# Altium schematic symbol library dungvh03-CERN_AnalogInterface.SchLib: 1053 symbols (part 5 of 12)
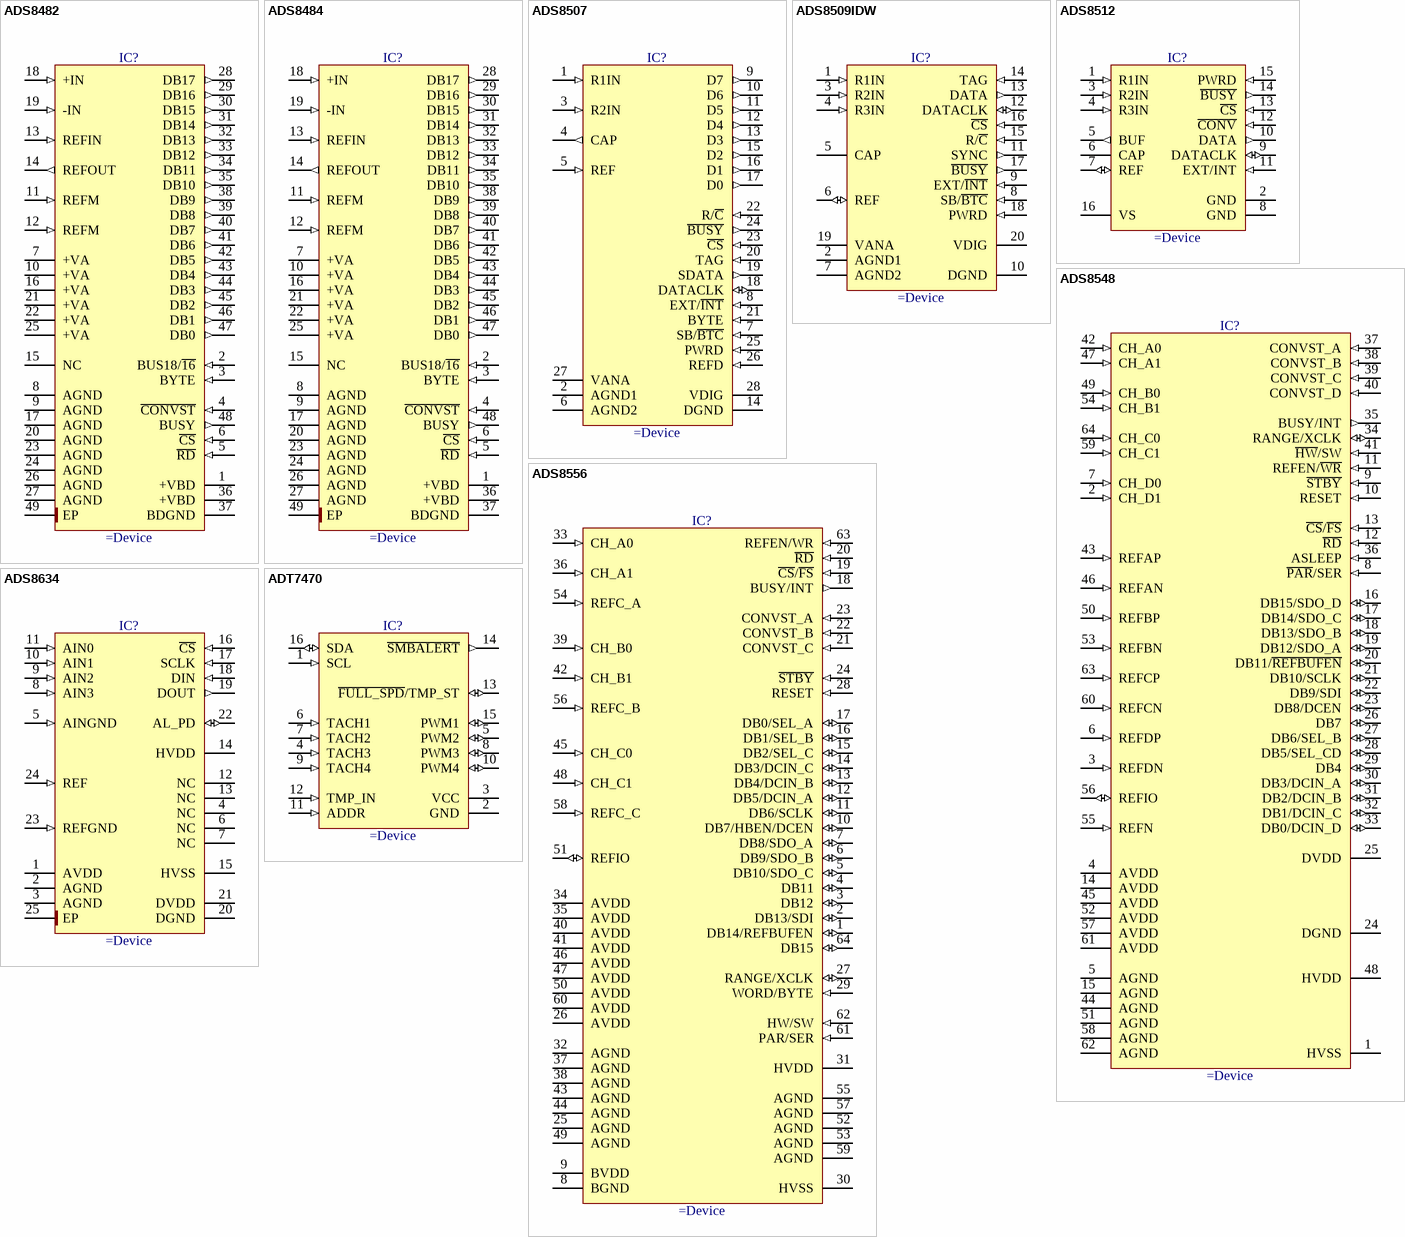
[diagram p71: symbols ADS8482 to ADT7470]

## ADS8512
designator IC?
12-Bit, 40-kSPS, Low Power Sampling ADC with Internal Reference and Serial Interface
pins: 1 R1IN (in), 2 GND (power), 3 R2IN (in), 4 R3IN (in), 5 BUF (out), 6 CAP, 7 REF (io), 8 GND (power), 9 DATACLK (io), 10 DATA (out), 11 EXT/INT (in), 12 ~{CONV} (in), 13 ~{CS} (in), 14 ~{BUSY} (out), 15 PWRD (in), 16 VS (power)

## ADS8548
designator IC?
14-Bit, 600kSPS (PAR) or 450kSPS (SER), Eight-Channel, Simultaneous Sampling ADC
pins: 1 HVSS (power), 2 CH_D1 (in), 3 REFDN (in), 4 AVDD (power), 5 AGND (power), 6 REFDP (in), 7 CH_D0 (in), 8 ~{PAR}/SER (in), 9 ~{STBY} (in), 10 RESET (in), 11 REFEN/~{WR} (in), 12 ~{RD} (in), 13 ~{CS}/~{FS} (in), 14 AVDD (power), 15 AGND (power), 16 DB15/SDO_D (io), 17 DB14/SDO_C (io), 18 DB13/SDO_B (io), 19 DB12/SDO_A (io), 20 DB11/~{REFBUFEN} (io), 21 DB10/SCLK (io), 22 DB9/SDI (io), 23 DB8/DCEN (io), 24 DGND (power), 25 DVDD (power), 26 DB7 (io), 27 DB6/SEL_B (io), 28 DB5/SEL_CD (io), 29 DB4 (io), 30 DB3/DCIN_A (io), 31 DB2/DCIN_B (io), 32 DB1/DCIN_C (io), 33 DB0/DCIN_D (io), 34 RANGE/XCLK (io), 35 BUSY/INT (out), 36 ASLEEP (in), 37 CONVST_A (in), 38 CONVST_B (in), 39 CONVST_C (in), 40 CONVST_D (in), 41 ~{HW}/SW (in), 42 CH_A0 (in), 43 REFAP (in), 44 AGND (power), 45 AVDD (power), 46 REFAN (in), 47 CH_A1 (in), 48 HVDD (power), 49 CH_B0 (in), 50 REFBP (in), 51 AGND (power), 52 AVDD (power), 53 REFBN (in), 54 CH_B1 (in), 55 REFN (in), 56 REFIO (io), 57 AVDD (power), 58 AGND (power), 59 CH_C1 (in), 60 REFCN (in), 61 AVDD (power), 62 AGND (power), 63 REFCP (in), 64 CH_C0 (in)

## ADS8556
designator IC?
16-Bit, 630kSPS (PAR) or 450kSPS (SER), Six-Channel, Simultaneous Sampling ADC
pins: 1 DB14/REFBUFEN (io), 2 DB13/SDI (io), 3 DB12 (io), 4 DB11 (io), 5 DB10/SDO_C (io), 6 DB9/SDO_B (io), 7 DB8/SDO_A (io), 8 BGND (power), 9 BVDD (power), 10 DB7/HBEN/DCEN (io), 11 DB6/SCLK (io), 12 DB5/DCIN_A (io), 13 DB4/DCIN_B (io), 14 DB3/DCIN_C (io), 15 DB2/SEL_C (io), 16 DB1/SEL_B (io), 17 DB0/SEL_A (io), 18 BUSY/INT (out), 19 ~{CS}/~{FS} (in), 20 ~{RD} (in), 21 CONVST_C (in), 22 CONVST_B (in), 23 CONVST_A (in), 24 ~{STBY} (in), 25 AGND (power), 26 AVDD (power), 27 RANGE/XCLK (io), 28 RESET (in), 29 WORD/BYTE (in), 30 HVSS (power), 31 HVDD (power), 32 AGND (power), 33 CH_A0 (in), 34 AVDD (power), 35 AVDD (power), 36 CH_A1 (in), 37 AGND (power), 38 AGND (power), 39 CH_B0 (in), 40 AVDD (power), 41 AVDD (power), 42 CH_B1 (in), 43 AGND (power), 44 AGND (power), 45 CH_C0 (in), 46 AVDD (power), 47 AVDD (power), 48 CH_C1 (in), 49 AGND (power), 50 AVDD (power), 51 REFIO (io), 52 AGND (power), 53 AGND (power), 54 REFC_A (in), 55 AGND (power), 56 REFC_B (in), 57 AGND (power), 58 REFC_C (in), 59 AGND (power), 60 AVDD (power), 61 PAR/SER (in), 62 HW/SW (in), 63 REFEN/WR (in), 64 DB15 (io)

## ADS8634
designator IC?
12-Bit, 1MSPS, 4-Channel, Bipolar-Input, SAR Analog-to-Digital Converter with Software-Selectable Ranges
pins: 1 AVDD (power), 2 AGND (power), 3 AGND (power), 4 NC, 5 AINGND (in), 6 NC, 7 NC, 8 AIN3 (in), 9 AIN2 (in), 10 AIN1 (in), 11 AIN0 (in), 12 NC, 13 NC, 14 HVDD (power), 15 HVSS (power), 16 ~{CS} (in), 17 SCLK (in), 18 DIN (in), 19 DOUT (out), 20 DGND (power), 21 DVDD (power), 22 AL_PD (io), 23 REFGND (in), 24 REF (in), 25 EP (power)

## ADT7470
designator IC?
Temperature Sensor Hub and Fan Controller
pins: 1 SCL (in), 2 GND (power), 3 VCC (power), 4 TACH3 (in), 5 PWM2 (io), 6 TACH1 (in), 7 TACH2 (in), 8 PWM3 (io), 9 TACH4 (in), 10 PWM4 (io), 11 ADDR (in), 12 TMP_IN (in), 13 ~{FULL_SPD}/TMP_ST (io), 14 ~{SMBALERT} (out), 15 PWM1 (io), 16 SDA (io)

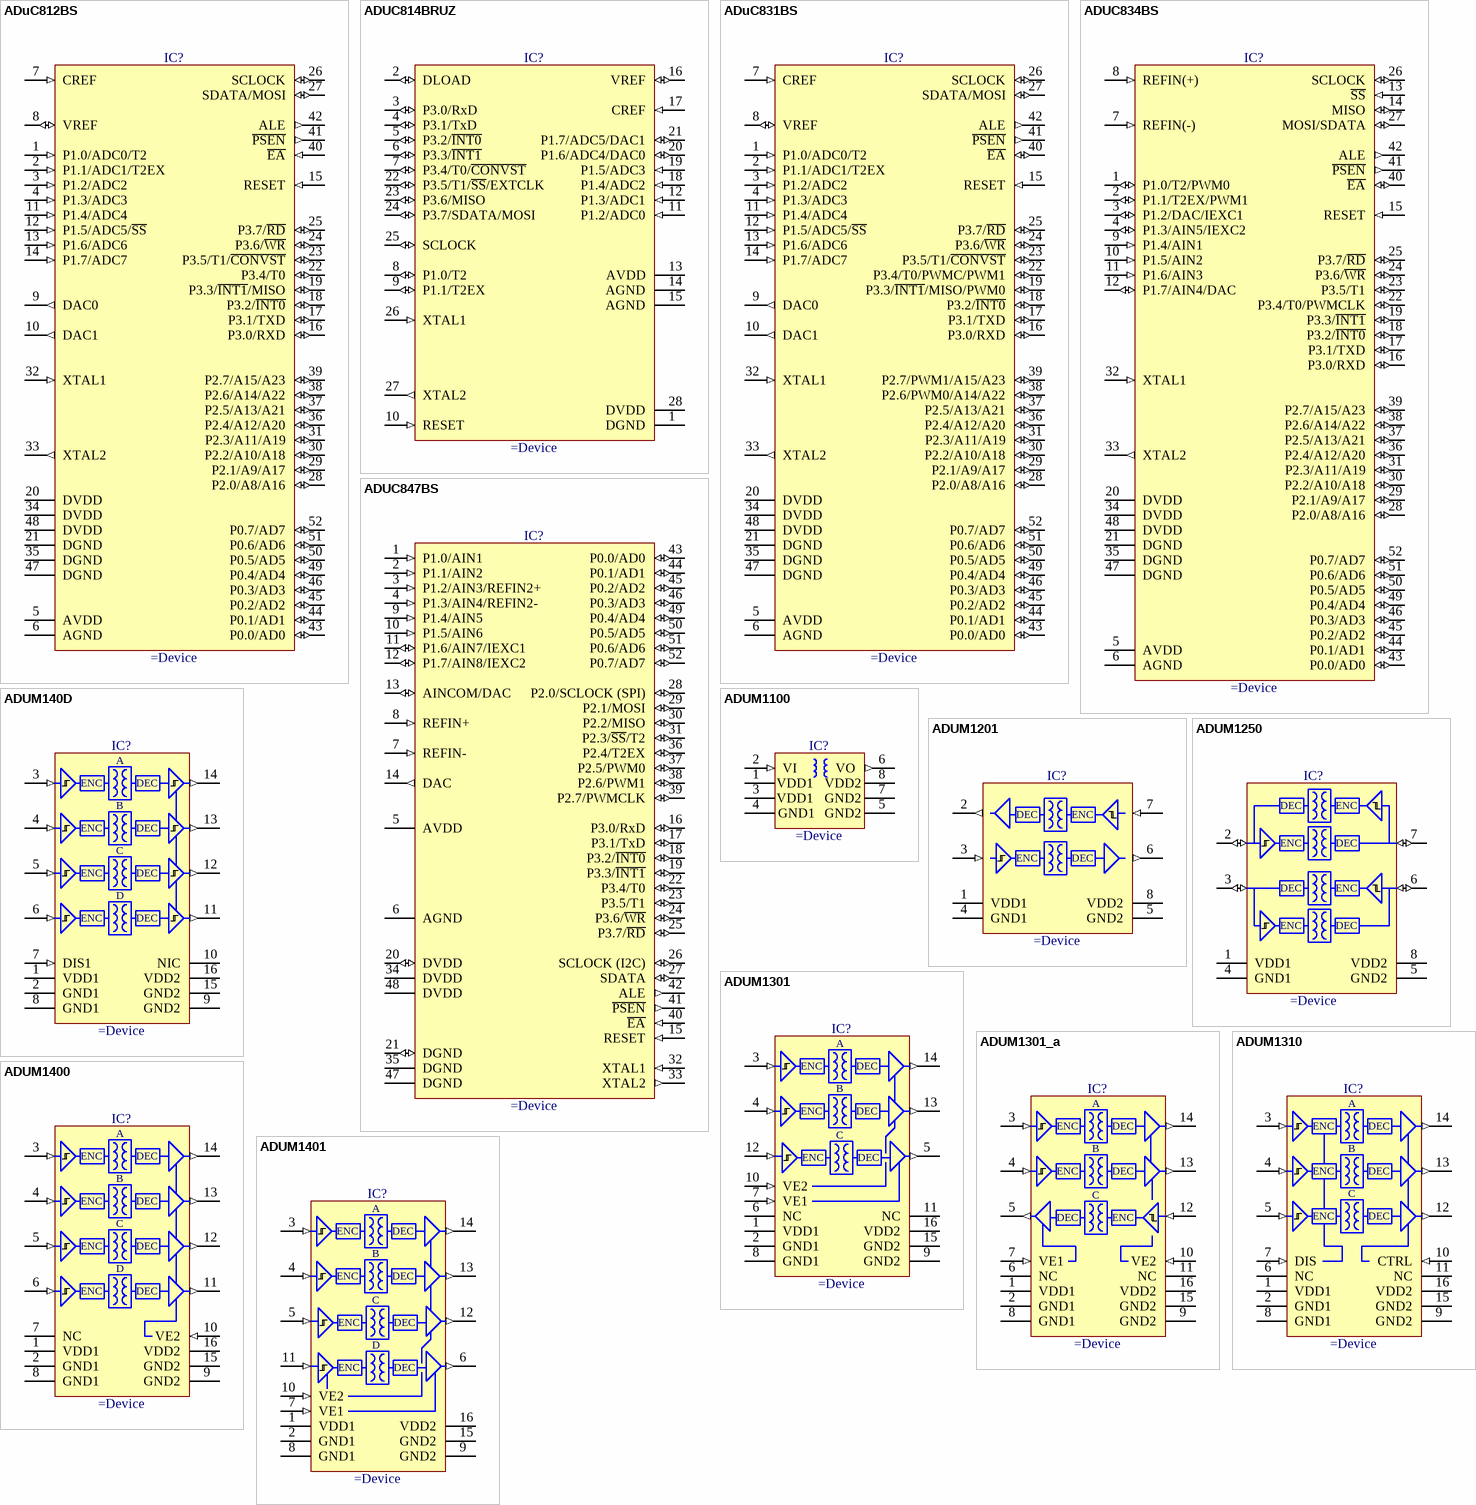
[diagram p22: symbols ADuC812BS to ADUM1401]

## ADuC812BS
designator IC?
MicroConverter®, Multichannel 12-Bit ADC With Embedded Flash MCU
pins: 1 P1.0/ADC0/T2 (in), 2 P1.1/ADC1/T2EX (in), 3 P1.2/ADC2 (in), 4 P1.3/ADC3 (in), 5 AVDD (power), 6 AGND (power), 7 CREF (in), 8 VREF (io), 9 DAC0 (out), 10 DAC1 (out), 11 P1.4/ADC4 (in), 12 P1.5/ADC5/~{SS} (in), 13 P1.6/ADC6 (in), 14 P1.7/ADC7 (in), 15 RESET (in), 16 P3.0/RXD (io), 17 P3.1/TXD (io), 18 P3.2/~{INT0} (io), 19 P3.3/~{INT1}/MISO (io), 20 DVDD (power), 21 DGND (power), 22 P3.4/T0 (io), 23 P3.5/T1/~{CONVST} (io), 24 P3.6/~{WR} (io), 25 P3.7/~{RD} (io), 26 SCLOCK (io), 27 SDATA/MOSI (io), 28 P2.0/A8/A16 (io), 29 P2.1/A9/A17 (io), 30 P2.2/A10/A18 (io), 31 P2.3/A11/A19 (io), 32 XTAL1 (in), 33 XTAL2 (out), 34 DVDD (power), 35 DGND (power), 36 P2.4/A12/A20 (io), 37 P2.5/A13/A21 (io), 38 P2.6/A14/A22 (io), 39 P2.7/A15/A23 (io), 40 ~{EA} (in), 41 ~{PSEN} (out), 42 ALE (out), 43 P0.0/AD0 (io), 44 P0.1/AD1 (io), 45 P0.2/AD2 (io), 46 P0.3/AD3 (io), 47 DGND (power), 48 DVDD (power), 49 P0.4/AD4 (io), 50 P0.5/AD5 (io), 51 P0.6/AD6 (io), 52 P0.7/AD7 (io)

## ADUC814BRUZ
designator IC?
MicroConverter®, Small Package 12-Bit ADC with Embedded Flash MCU
pins: 1 DGND (power), 2 DLOAD (io), 3 P3.0/RxD (io), 4 P3.1/TxD (io), 5 P3.2/~{INT0} (io), 6 P3.3/~{INT1} (io), 7 P3.4/T0/~{CONVST} (io), 8 P1.0/T2 (io), 9 P1.1/T2EX (io), 10 RESET (in), 11 P1.2/ADC0 (in), 12 P1.3/ADC1 (in), 13 AVDD (power), 14 AGND (power), 15 AGND (power), 16 VREF (io), 17 CREF (in), 18 P1.4/ADC2 (in), 19 P1.5/ADC3 (in), 20 P1.6/ADC4/DAC0 (io), 21 P1.7/ADC5/DAC1 (io), 22 P3.5/T1/~{SS}/EXTCLK (io), 23 P3.6/MISO (io), 24 P3.7/SDATA/MOSI (io), 25 SCLOCK (io), 26 XTAL1 (in), 27 XTAL2 (out), 28 DVDD (power)

## ADuC831BS
designator IC?
MicroConverter®, 12-Bit ADCs And DACs With Embedded 62 kBytes Flash MCU
pins: 1 P1.0/ADC0/T2 (in), 2 P1.1/ADC1/T2EX (in), 3 P1.2/ADC2 (in), 4 P1.3/ADC3 (in), 5 AVDD (power), 6 AGND (power), 7 CREF (in), 8 VREF (io), 9 DAC0 (out), 10 DAC1 (out), 11 P1.4/ADC4 (in), 12 P1.5/ADC5/~{SS} (in), 13 P1.6/ADC6 (in), 14 P1.7/ADC7 (in), 15 RESET (in), 16 P3.0/RXD (io), 17 P3.1/TXD (io), 18 P3.2/~{INT0} (io), 19 P3.3/~{INT1}/MISO/PWM0 (io), 20 DVDD (power), 21 DGND (power), 22 P3.4/T0/PWMC/PWM1 (io), 23 P3.5/T1/~{CONVST} (io), 24 P3.6/~{WR} (io), 25 P3.7/~{RD} (io), 26 SCLOCK (io), 27 SDATA/MOSI (io), 28 P2.0/A8/A16 (io), 29 P2.1/A9/A17 (io), 30 P2.2/A10/A18 (io), 31 P2.3/A11/A19 (io), 32 XTAL1 (in), 33 XTAL2 (out), 34 DVDD (power), 35 DGND (power), 36 P2.4/A12/A20 (io), 37 P2.5/A13/A21 (io), 38 P2.6/PWM0/A14/A22 (io), 39 P2.7/PWM1/A15/A23 (io), 40 ~{EA} (io), 41 ~{PSEN} (out), 42 ALE (out), 43 P0.0/AD0 (io), 44 P0.1/AD1 (io), 45 P0.2/AD2 (io), 46 P0.3/AD3 (io), 47 DGND (power), 48 DVDD (power), 49 P0.4/AD4 (io), 50 P0.5/AD5 (io), 51 P0.6/AD6 (io), 52 P0.7/AD7 (io)

## ADUC834BS
designator IC?
MicroConverter®, Dual 16-Bit/24-Bit Delta-Sigma ADC ADCs With Embedded 62 kB Flash MCU
pins: 1 P1.0/T2/PWM0 (io), 2 P1.1/T2EX/PWM1 (io), 3 P1.2/DAC/IEXC1 (io), 4 P1.3/AIN5/IEXC2 (io), 5 AVDD (power), 6 AGND (power), 7 REFIN(-) (in), 8 REFIN(+) (in), 9 P1.4/AIN1 (in), 10 P1.5/AIN2 (in), 11 P1.6/AIN3 (in), 12 P1.7/AIN4/DAC (io), 13 ~{SS} (in), 14 MISO (io), 15 RESET (in), 16 P3.0/RXD (io), 17 P3.1/TXD (io), 18 P3.2/~{INT0} (io), 19 P3.3/~{INT1} (io), 20 DVDD (power), 21 DGND (power), 22 P3.4/T0/PWMCLK (io), 23 P3.5/T1 (io), 24 P3.6/~{WR} (io), 25 P3.7/~{RD} (io), 26 SCLOCK (io), 27 MOSI/SDATA (io), 28 P2.0/A8/A16 (io), 29 P2.1/A9/A17 (io), 30 P2.2/A10/A18 (io), 31 P2.3/A11/A19 (io), 32 XTAL1 (in), 33 XTAL2 (out), 34 DVDD (power), 35 DGND (power), 36 P2.4/A12/A20 (io), 37 P2.5/A13/A21 (io), 38 P2.6/A14/A22 (io), 39 P2.7/A15/A23 (io), 40 ~{EA} (io), 41 ~{PSEN} (out), 42 ALE (out), 43 P0.0/AD0 (io), 44 P0.1/AD1 (io), 45 P0.2/AD2 (io), 46 P0.3/AD3 (io), 47 DGND (power), 48 DVDD (power), 49 P0.4/AD4 (io), 50 P0.5/AD5 (io), 51 P0.6/AD6 (io), 52 P0.7/AD7 (io)

## ADUC847BS
designator IC?
MicroConverter® Multichannel 24-Bit ADCs with Embedded 62 kB Flash and Single-Cycle MCU
pins: 1 P1.0/AIN1 (in), 2 P1.1/AIN2 (in), 3 P1.2/AIN3/REFIN2+ (in), 4 P1.3/AIN4/REFIN2- (in), 5 AVDD (power), 6 AGND (power), 7 REFIN- (in), 8 REFIN+ (in), 9 P1.4/AIN5 (in), 10 P1.5/AIN6 (in), 11 P1.6/AIN7/IEXC1 (io), 12 P1.7/AIN8/IEXC2 (io), 13 AINCOM/DAC (io), 14 DAC (out), 15 RESET (in), 16 P3.0/RxD (io), 17 P3.1/TxD (io), 18 P3.2/~{INT0} (io), 19 P3.3/~{INT1} (io), 20 DVDD (io), 21 DGND (io), 22 P3.4/T0 (io), 23 P3.5/T1 (io), 24 P3.6/~{WR} (io), 25 P3.7/~{RD} (io), 26 SCLOCK (I2C) (io), 27 SDATA (io), 28 P2.0/SCLOCK (SPI) (io), 29 P2.1/MOSI (io), 30 P2.2/MISO (io), 31 P2.3/~{SS}/T2 (io), 32 XTAL1 (in), 33 XTAL2 (out), 34 DVDD (power), 35 DGND (power), 36 P2.4/T2EX (io), 37 P2.5/PWM0 (io), 38 P2.6/PWM1 (io), 39 P2.7/PWMCLK (io), 40 ~{EA} (in), 41 ~{PSEN} (out), 42 ALE (out), 43 P0.0/AD0 (io), 44 P0.1/AD1 (io), 45 P0.2/AD2 (io), 46 P0.3/AD3 (io), 47 DGND (power), 48 DVDD (power), 49 P0.4/AD4 (io), 50 P0.5/AD5 (io), 51 P0.6/AD6 (io), 52 P0.7/AD7 (io)

## ADUM140D
designator IC?
3.0kV RMS/3.75kV RMS Quad Digital Isolator
pins: 1 VDD1 (power), 2 GND1 (power), 3 VIA (in), 4 VIB (in), 5 VIC (in), 6 VID (in), 7 DIS1 (in), 8 GND1 (power), 9 GND2 (power), 10 NIC, 11 VOD (out), 12 VOC (out), 13 VOB (out), 14 VOA (out), 15 GND2 (power), 16 VDD2 (power)
text: A; ENC; DEC; B; C; D

## ADUM1100
designator IC?
iCoupler® Digital Isolator
pins: 1 VDD1 (power), 2 VI (in), 3 VDD1 (power), 4 GND1 (power), 5 GND2 (power), 6 VO (out), 7 GND2 (power), 8 VDD2 (power)

## ADUM1201
designator IC?
Dual-Channel Digital Isolators
pins: 1 VDD1 (power), 2 VOA (out), 3 VIB (in), 4 GND1 (power), 5 GND2 (power), 6 VOB (out), 7 VIA (in), 8 VDD2 (power)
text: DEC; ENC

## ADUM1250
designator IC?
Hot Swappable, Dual I2C Isolator
pins: 1 VDD1 (power), 2 SDA1 (io), 3 SCL1 (io), 4 GND1 (power), 5 GND2 (power), 6 SCL2 (io), 7 SDA2 (io), 8 VDD2 (power)
text: DEC; ENC

## ADUM1301
designator IC?
Triple-Channel Digital Isolators
pins: 1 VDD1 (power), 2 GND1 (power), 3 VIA (in), 4 VIB (in), 5 VOC (out), 6 NC, 7 VE1 (in), 8 GND1 (power), 9 GND2 (power), 10 VE2 (in), 11 NC, 12 VIC (in), 13 VOB (out), 14 VOA (out), 15 GND2 (power), 16 VDD2 (power)
text: A; ENC; DEC; B; C

## ADUM1301_a
designator IC?
Triple-Channel Digital Isolators
pins: 1 VDD1 (power), 2 GND1 (power), 3 VIA (in), 4 VIB (in), 5 VOC (out), 6 NC, 7 VE1 (in), 8 GND1 (power), 9 GND2 (power), 10 VE2 (in), 11 NC, 12 VIC (in), 13 VOB (out), 14 VOA (out), 15 GND2 (power), 16 VDD2 (power)
text: A; ENC; DEC; B; C

## ADUM1310
designator IC?
Triple-Channel Digital Isolator
pins: 1 VDD1 (power), 2 GND1 (power), 3 VIA (in), 4 VIB (in), 5 VIC (in), 6 NC, 7 DIS (in), 8 GND1 (power), 9 GND2 (power), 10 CTRL (in), 11 NC, 12 VOC (out), 13 VOB (out), 14 VOA (out), 15 GND2 (power), 16 VDD2 (power)
text: A; ENC; DEC; B; C

## ADUM1400
designator IC?
Quad-Channel Digital Isolator
pins: 1 VDD1 (power), 2 GND1 (power), 3 VIA (in), 4 VIB (in), 5 VIC (in), 6 VID (in), 7 NC, 8 GND1 (power), 9 GND2 (power), 10 VE2 (in), 11 VOD (out), 12 VOC (out), 13 VOB (out), 14 VOA (out), 15 GND2 (power), 16 VDD2 (power)
text: A; ENC; DEC; B; C; D

## ADUM1401
designator IC?
Quad-Channel Digital Isolator (1/3 Channel Directionality)
pins: 1 VDD1 (power), 2 GND1 (power), 3 VIA (in), 4 VIB (in), 5 VIC (in), 6 VOD (out), 7 VE1 (in), 8 GND1 (power), 9 GND2 (power), 10 VE2 (in), 11 VID (in), 12 VOC (out), 13 VOB (out), 14 VOA (out), 15 GND2 (power), 16 VDD2 (power)
text: A; ENC; DEC; B; C; D

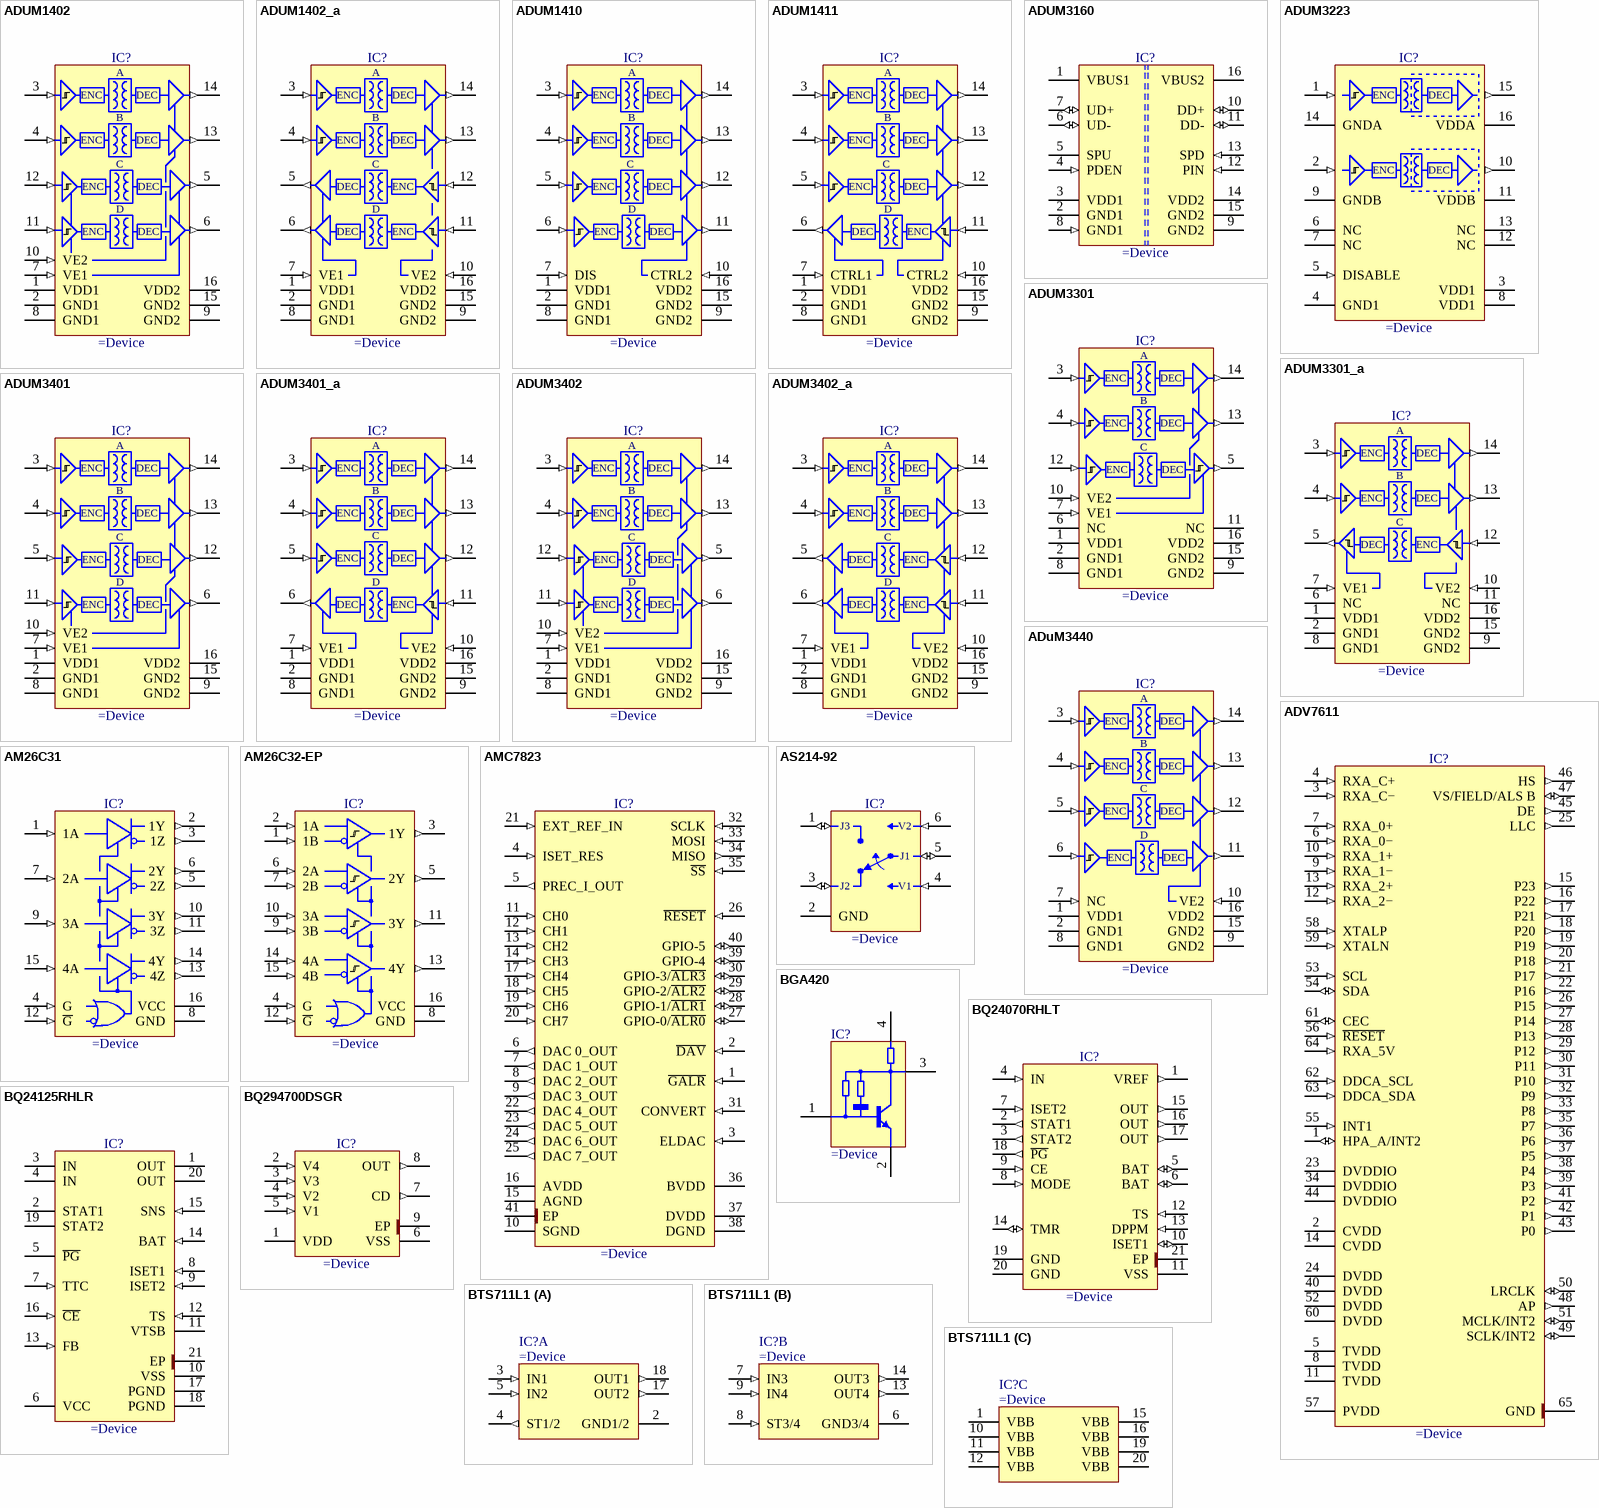
[diagram p23: symbols ADUM1402 to BTS711L1]

## ADUM1402
designator IC?
Quad-Channel Digital Isolator (2/2 Channel Directionality)
pins: 1 VDD1 (power), 2 GND1 (power), 3 VIA (in), 4 VIB (in), 5 VOC (out), 6 VOD (out), 7 VE1 (in), 8 GND1 (power), 9 GND2 (power), 10 VE2 (in), 11 VID (in), 12 VIC (in), 13 VOB (out), 14 VOA (out), 15 GND2 (power), 16 VDD2 (power)
text: A; ENC; DEC; B; C; D

## ADUM1402_a
designator IC?
Quad-Channel Digital Isolator (2/2 Channel Directionality)
pins: 1 VDD1 (power), 2 GND1 (power), 3 VIA (in), 4 VIB (in), 5 VOC (out), 6 VOD (out), 7 VE1 (in), 8 GND1 (power), 9 GND2 (power), 10 VE2 (in), 11 VID (in), 12 VIC (in), 13 VOB (out), 14 VOA (out), 15 GND2 (power), 16 VDD2 (power)
text: A; ENC; DEC; B; C; D

## ADUM1410
designator IC?
Quad-Channel Digital Isolator (4/0 Channel Directionality)
pins: 1 VDD1 (power), 2 GND1 (power), 3 VIA (in), 4 VIB (in), 5 VIC (in), 6 VID (in), 7 DIS (in), 8 GND1 (power), 9 GND2 (power), 10 CTRL2 (in), 11 VOD (out), 12 VOC (out), 13 VOB (out), 14 VOA (out), 15 GND2 (power), 16 VDD2 (power)
text: A; ENC; DEC; B; C; D

## ADUM1411
designator IC?
Quad-Channel Digital Isolator (3/1 Channel Directionality)
pins: 1 VDD1 (power), 2 GND1 (power), 3 VIA (in), 4 VIB (in), 5 VIC (in), 6 VOD (out), 7 CTRL1 (in), 8 GND1 (power), 9 GND2 (power), 10 CTRL2 (in), 11 VID (in), 12 VOC (out), 13 VOB (out), 14 VOA (out), 15 GND2 (power), 16 VDD2 (power)
text: A; ENC; DEC; B; C; D

## ADUM3160
designator IC?
Full/Low Speed 2.5 kV USB Digital Isolator
pins: 1 VBUS1 (power), 2 GND1 (power), 3 VDD1 (power), 4 PDEN (in), 5 SPU (power), 6 UD- (io), 7 UD+ (io), 8 GND1 (in), 9 GND2 (power), 10 DD+ (io), 11 DD- (io), 12 PIN (in), 13 SPD (in), 14 VDD2 (power), 15 GND2 (power), 16 VBUS2 (power)

## ADUM3223
designator IC?
Isolated Precision Half-Bridge Driver, 4A Output
pins: 1 VIA (in), 2 VIB (in), 3 VDD1 (power), 4 GND1 (power), 5 DISABLE (in), 6 NC, 7 NC, 8 VDD1 (power), 9 GNDB (power), 10 VOB (out), 11 VDDB (power), 12 NC, 13 NC, 14 GNDA (power), 15 VOA (out), 16 VDDA (power)
text: ENC; DEC

## ADUM3301
designator IC?
Triple-Channel Digital Isolators
pins: 1 VDD1 (power), 2 GND1 (power), 3 VIA (in), 4 VIB (in), 5 VOC (out), 6 NC, 7 VE1 (in), 8 GND1 (power), 9 GND2 (power), 10 VE2 (in), 11 NC, 12 VIC (in), 13 VOB (out), 14 VOA (out), 15 GND2 (power), 16 VDD2 (power)
text: A; ENC; DEC; B; C

## ADUM3301_a
designator IC?
Triple-Channel Digital Isolators
pins: 1 VDD1 (power), 2 GND1 (power), 3 VIA (in), 4 VIB (in), 5 VOC (out), 6 NC, 7 VE1 (in), 8 GND1 (power), 9 GND2 (power), 10 VE2 (in), 11 NC, 12 VIC (in), 13 VOB (out), 14 VOA (out), 15 GND2 (power), 16 VDD2 (power)
text: A; ENC; DEC; B; C

## ADUM3401
designator IC?
Quad-Channel Digital Isolator, Enhanced System-Level ESD Reliability
pins: 1 VDD1 (power), 2 GND1 (power), 3 VIA (in), 4 VIB (in), 5 VIC (in), 6 VOD (out), 7 VE1 (in), 8 GND1 (power), 9 GND2 (power), 10 VE2 (in), 11 VID (in), 12 VOC (out), 13 VOB (out), 14 VOA (out), 15 GND2 (power), 16 VDD2 (power)
text: A; ENC; DEC; B; C; D

## ADUM3401_a
designator IC?
Quad-Channel, Digital Isolators, Enhanced System-Level ESD Reliability
pins: 1 VDD1 (power), 2 GND1 (power), 3 VIA (in), 4 VIB (in), 5 VIC (in), 6 VOD (out), 7 VE1 (in), 8 GND1 (power), 9 GND2 (power), 10 VE2 (in), 11 VID (in), 12 VOC (out), 13 VOB (out), 14 VOA (out), 15 GND2 (power), 16 VDD2 (power)
text: A; ENC; DEC; B; C; D

## ADUM3402
designator IC?
Quad-Channel Digital Isolator, Enhanced System-Level ESD Reliability
pins: 1 VDD1 (power), 2 GND1 (power), 3 VIA (in), 4 VIB (in), 5 VOC (out), 6 VOD (out), 7 VE1 (in), 8 GND1 (power), 9 GND2 (power), 10 VE2 (in), 11 VID (in), 12 VIC (in), 13 VOB (out), 14 VOA (out), 15 GND2 (power), 16 VDD2 (power)
text: A; ENC; DEC; B; C; D

## ADUM3402_a
designator IC?
Quad-Channel, Digital Isolators, Enhanced System-Level ESD Reliability
pins: 1 VDD1 (power), 2 GND1 (power), 3 VIA (in), 4 VIB (in), 5 VOC (out), 6 VOD (out), 7 VE1 (in), 8 GND1 (power), 9 GND2 (power), 10 VE2 (in), 11 VID (in), 12 VIC (in), 13 VOB (out), 14 VOA (out), 15 GND2 (power), 16 VDD2 (power)
text: A; ENC; DEC; B; C; D

## ADuM3440
designator IC?
Quad-Channel, High Speed Digital Isolator
pins: 1 VDD1 (power), 2 GND1 (power), 3 VIA (in), 4 VIB (in), 5 VIC (in), 6 VID (in), 7 NC (in), 8 GND1 (power), 9 GND2 (power), 10 VE2 (in), 11 VOD (out), 12 VOC (out), 13 VOB (out), 14 VOA (out), 15 GND2 (power), 16 VDD2 (power)
text: A; ENC; DEC; B; C; D

## ADV7611
designator IC?
Low Power 165 MHz HDMI Receiver
pins: 1 HPA_A/INT2 (io), 2 CVDD (power), 3 RXA_C− (in), 4 RXA_C+ (in), 5 TVDD (power), 6 RXA_0− (in), 7 RXA_0+ (in), 8 TVDD (power), 9 RXA_1− (in), 10 RXA_1+ (in), 11 TVDD (power), 12 RXA_2− (in), 13 RXA_2+ (in), 14 CVDD (power), 15 P23 (out), 16 P22 (out), 17 P21 (out), 18 P20 (out), 19 P19 (out), 20 P18 (out), 21 P17 (out), 22 P16 (out), 23 DVDDIO (power), 24 DVDD (power), 25 LLC (out), 26 P15 (out), 27 P14 (out), 28 P13 (out), 29 P12 (out), 30 P11 (out), 31 P10 (out), 32 P9 (out), 33 P8 (out), 34 DVDDIO (power), 35 P7 (out), 36 P6 (out), 37 P5 (out), 38 P4 (out), 39 P3 (out), 40 DVDD (power), 41 P2 (out), 42 P1 (out), 43 P0 (out), 44 DVDDIO (power), 45 DE (out), 46 HS (out), 47 VS/FIELD/ALS B (io), 48 AP (out), 49 SCLK/INT2 (io), 50 LRCLK (io), 51 MCLK/INT2 (io), 52 DVDD (power), 53 SCL (in), 54 SDA (io), 55 INT1 (in), 56 ~{RESET} (in), 57 PVDD (power), 58 XTALP (in), 59 XTALN (in), 60 DVDD (power), 61 CEC (io), 62 DDCA_SCL (in), 63 DDCA_SDA (in), 64 RXA_5V (in), 65 GND

## AM26C31
designator IC?
Quadruple Differential Line Driver
pins: 1 1A (in), 2 1Y (out), 3 1Z (out), 4 G (in), 5 2Z (out), 6 2Y (out), 7 2A (in), 8 GND (power), 9 3A (in), 10 3Y (out), 11 3Z (out), 12 ~{G} (in), 13 4Z (out), 14 4Y (out), 15 4A (in), 16 VCC (power)

## AM26C32-EP
designator IC?
Quadruple Differential Line Receiver
pins: 1 1B (in), 2 1A (in), 3 1Y (out), 4 G (in), 5 2Y (out), 6 2A (in), 7 2B (in), 8 GND (power), 9 3B (in), 10 3A (in), 11 3Y (out), 12 ~{G} (in), 13 4Y (out), 14 4A (in), 15 4B (in), 16 VCC (power)

## AMC7823
designator IC?
Integrated, Multichannel ADC and DAC for Analog Monitoring & Control
pins: 1 ~{GALR} (in), 2 ~{DAV} (in), 3 ELDAC (in), 4 ISET_RES (in), 5 PREC_I_OUT (out), 6 DAC 0_OUT (out), 7 DAC 1_OUT (out), 8 DAC 2_OUT (out), 9 DAC 3_OUT (out), 10 SGND (power), 11 CH0 (in), 12 CH1 (in), 13 CH2 (in), 14 CH3 (in), 15 AGND (power), 16 AVDD (power), 17 CH4 (in), 18 CH5 (in), 19 CH6 (in), 20 CH7 (in), 21 EXT_REF_IN (in), 22 DAC 4_OUT (out), 23 DAC 5_OUT (out), 24 DAC 6_OUT (out), 25 DAC 7_OUT (out), 26 ~{RESET} (in), 27 GPIO-0/~{ALR0} (io), 28 GPIO-1/~{ALR1} (io), 29 GPIO-2/~{ALR2} (io), 30 GPIO-3/~{ALR3} (io), 31 CONVERT (in), 32 SCLK (in), 33 MOSI (in), 34 MISO (out), 35 ~{SS} (in), 36 BVDD (power), 37 DVDD (power), 38 DGND (power), 39 GPIO-4 (io), 40 GPIO-5 (io), 41 EP (power)

## AS214-92
designator IC?
PHEMT GaAs IC SPDT Switch 0.1-3 GHz
pins: 1 J3 (io), 2 GND (power), 3 J2 (io), 4 V1 (in), 5 J1 (io), 6 V2 (in)

## BGA420
designator IC?
Si-MMIC-Amplifier in SIEGET 25-Technologie
pins: 1 IN, 2 GND, 3 OUT, 4 VD

## BQ24070RHLT
designator IC?
Li-Ion Charger with Dynamic Power-Path Management, Output regulated to 4.4V
pins: 1 VREF (out), 2 STAT1 (out), 3 STAT2 (out), 4 IN (in), 5 BAT (io), 6 BAT (io), 7 ISET2 (in), 8 MODE (in), 9 CE (in), 10 ISET1 (io), 11 VSS (power), 12 TS (in), 13 DPPM (in), 14 TMR (io), 15 OUT (out), 16 OUT (out), 17 OUT (out), 18 ~{PG} (out), 19 GND (power), 20 GND (power), 21 EP (power)

## BQ24125RHLR
designator IC?
Single Chip Switchmode Li-Ion and Li-Polymer Charge Management IC with Enhanced EMI Performance
pins: 1 OUT (power) "Charge current output inductor connection. Connect a zener TVS diode between OUT pin and PGND to clamp the voltage spike to protect the power MOSFETs during abnormal conditions.", 2 STAT1 (oc) "Charge status 1 (open-drain output). When the transistor turns on indicates charge in process. When it is off and with the condition of STAT2 indicates various charger conditions (See Table 1)", 3 IN (power) "Charger input voltage. Bypass it with a 10uF capacitor from IN to PGND.", 4 IN (power) "Charger input voltage. Bypass it with a 10uF capacitor from IN to PGND.", 5 ~{PG} (oc) "Power-good status output (open drain). The transistor turns on when a valid VCC is detected. It is turned off in the sleep mode. P\G\ can be used to drive a LED or communicate with a host processor.", 6 VCC (power) "Analog device input. A 0.1uF capacitor to VSS is required.", 7 TTC (in) "Timer and termination control. Connect a capacitor from this node to VSS to set the bqSWITCHER timer. When this input is low, the timer and termination detection are disabled.", 8 ISET1 (in) "Charger current set point 1 (fast charge). Use a resistor to ground to set this value.", 9 ISET2 (in) "Charge current set point 2 (precharge and termination), set by a resistor connected to ground.", 10 VSS (power) "Analog ground input", 11 VTSB "TS internal bias regulator voltage. Connect capacitor (with a value between a 0.1uF and 1uF) between this output and VSS.", 12 TS (in) "Temperature sense input. This input monitors its voltage against an internal threshold to determine if charging is allowed. Use an NTC thermistor and a voltage divider powered from VTSB to develop this voltage. (See Figure (See Datasheet)", 13 FB (in) "Output voltage analog feedback adjustment. Connect the output of a resistive voltage divider powered from the battery terminals to this node to adjust the output battery voltage regulation.", 14 BAT (in) "Battery voltage sense input. Bypass it with a capacitor to VSS if there are long inductive leads to battery.", 15 SNS (in) "Charge current-sense input. Battery current is sensed via the voltage drop developed on this pin by an external sense resistor in series with the battery pack. A 0.1uF capacitor to VSS is required.", 16 ~{CE} (in) "Charger enable input. This active low input, if set high, suspends charge and places the device in the low-power sleep mode. Do not pull up this input to VTSB.", 17 PGND (power) "Power ground input", 18 PGND (power) "Power ground input", 19 STAT2 (oc) "Charge status 2 (open-drain output). When the transistor turns on indicates charge is done. When it is off and with the condition of STAT1 indicates various charger conditions (See Table 1)", 20 OUT (power) "Charge current output inductor connection. Connect a zener TVS diode between OUT pin and PGND to clamp the voltage spike to protect the power MOSFETs during abnormal conditions.", 21 EP (power) "There is an internal electrical connection between the exposed thermal pad and VSS. The exposed thermal pad must be connected to the same potential as the VSS pin on the printed circuit board. The power pad can be used as a (See Datasheet)"

## BQ294700DSGR
designator IC?
Overvoltage Protection for 2-Series to 4-Series Cell Li-Ion Batteries with External Delay Capacitor
pins: 1 VDD (power), 2 V4 (in), 3 V3 (in), 4 V2 (in), 5 V1 (in), 6 VSS (power), 7 CD (out), 8 OUT (out), 9 EP (power)

## BTS711L1
designator IC?
Smart Four Channel Highside Power Switch
part A pins: 2 GND1/2 (power), 3 IN1 (in), 4 ST1/2 (out), 5 IN2 (in), 17 OUT2 (out), 18 OUT1 (out)
part B pins: 6 GND3/4 (power), 7 IN3 (in), 8 ST3/4 (in), 9 IN4 (in), 13 OUT4 (out), 14 OUT3 (out)
part C pins: 1 VBB (power), 10 VBB (power), 11 VBB (power), 12 VBB (power), 15 VBB (power), 16 VBB (power), 19 VBB (power), 20 VBB (power)

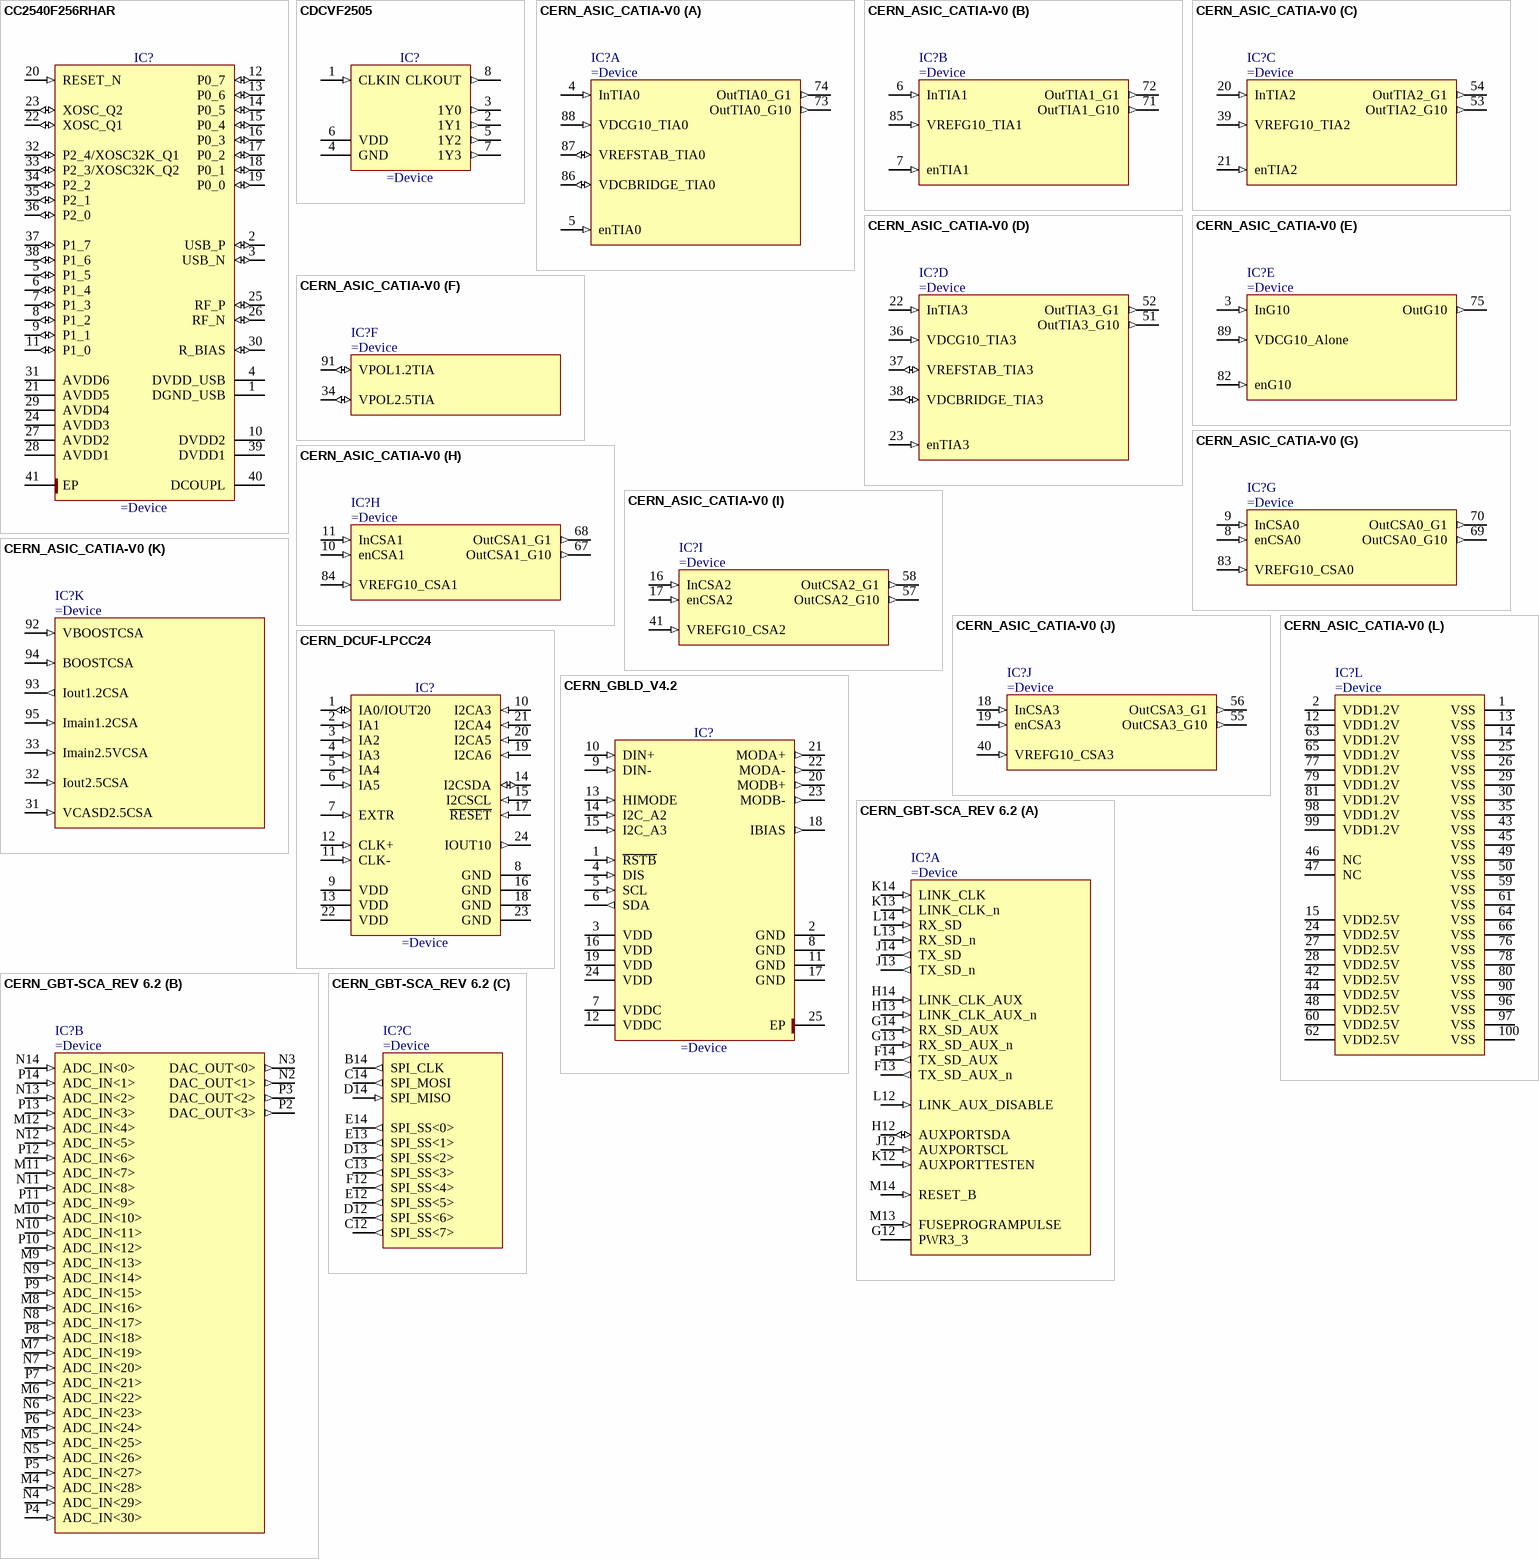
[diagram p24: symbols CC2540F256RHAR to CERN_GBT-SCA_REV 6.2]

## CC2540F256RHAR
designator IC?
2.4GHz Bluetooth Low Energy System-on-Chip Solution With 256 KB of Flash Memory
pins: 1 DGND_USB (power), 2 USB_P (io), 3 USB_N (io), 4 DVDD_USB (power), 5 P1_5 (io), 6 P1_4 (io), 7 P1_3 (io), 8 P1_2 (io), 9 P1_1 (io), 10 DVDD2 (power), 11 P1_0 (io), 12 P0_7 (io), 13 P0_6 (io), 14 P0_5 (io), 15 P0_4 (io), 16 P0_3 (io), 17 P0_2 (io), 18 P0_1 (io), 19 P0_0 (io), 20 RESET_N (in), 21 AVDD5 (power), 22 XOSC_Q1 (io), 23 XOSC_Q2 (io), 24 AVDD3 (power), 25 RF_P (io), 26 RF_N (io), 27 AVDD2 (power), 28 AVDD1 (power), 29 AVDD4 (power), 30 R_BIAS (io), 31 AVDD6 (power), 32 P2_4/XOSC32K_Q1 (io), 33 P2_3/XOSC32K_Q2 (io), 34 P2_2 (io), 35 P2_1 (io), 36 P2_0 (io), 37 P1_7 (io), 38 P1_6 (io), 39 DVDD1 (power), 40 DCOUPL (power), 41 EP (power)

## CDCVF2505
designator IC?
3.3V Clock Phase-Lock Loop Clock Driver
pins: 1 CLKIN (in), 2 1Y1 (out), 3 1Y0 (out), 4 GND (power), 5 1Y2 (out), 6 VDD (power), 7 1Y3 (out), 8 CLKOUT (out)

## CERN_ASIC_CATIA-V0
designator IC?
Transimpedance Amplifier for VFE upgrade CMS-ECAL
part A pins: 4 InTIA0 (in), 5 enTIA0 (in), 73 OutTIA0_G10 (out), 74 OutTIA0_G1 (out), 86 VDCBRIDGE_TIA0 (io), 87 VREFSTAB_TIA0 (io), 88 VDCG10_TIA0 (in)
part B pins: 6 InTIA1 (in), 7 enTIA1 (in), 71 OutTIA1_G10 (out), 72 OutTIA1_G1 (out), 85 VREFG10_TIA1 (in)
part C pins: 20 InTIA2 (in), 21 enTIA2 (in), 39 VREFG10_TIA2 (in), 53 OutTIA2_G10 (out), 54 OutTIA2_G1 (out)
part D pins: 22 InTIA3 (in), 23 enTIA3 (in), 36 VDCG10_TIA3 (in), 37 VREFSTAB_TIA3 (io), 38 VDCBRIDGE_TIA3 (io), 51 OutTIA3_G10 (out), 52 OutTIA3_G1 (out)
part E pins: 3 InG10 (in), 75 OutG10 (out), 82 enG10 (in), 89 VDCG10_Alone (in)
part F pins: 34 VPOL2.5TIA (io), 91 VPOL1.2TIA (io)
part G pins: 8 enCSA0 (in), 9 InCSA0 (in), 69 OutCSA0_G10 (out), 70 OutCSA0_G1 (out), 83 VREFG10_CSA0 (in)
part H pins: 10 enCSA1 (in), 11 InCSA1 (in), 67 OutCSA1_G10 (out), 68 OutCSA1_G1 (out), 84 VREFG10_CSA1 (in)
part I pins: 16 InCSA2 (in), 17 enCSA2 (in), 41 VREFG10_CSA2 (in), 57 OutCSA2_G10 (out), 58 OutCSA2_G1 (out)
part J pins: 18 InCSA3 (in), 19 enCSA3 (in), 40 VREFG10_CSA3 (in), 55 OutCSA3_G10 (out), 56 OutCSA3_G1 (out)
part K pins: 31 VCASD2.5CSA (in), 32 Iout2.5CSA (in), 33 Imain2.5VCSA (in), 92 VBOOSTCSA (in), 93 Iout1.2CSA (out), 94 BOOSTCSA (in), 95 Imain1.2CSA (in)
part L pins: 1 VSS (power), 2 VDD1.2V (power), 12 VDD1.2V (power), 13 VSS (power), 14 VSS (power), 15 VDD2.5V (power), 24 VDD2.5V (power), 25 VSS (power), 26 VSS (power), 27 VDD2.5V (power), 28 VDD2.5V (power), 29 VSS (power), 30 VSS (power), 35 VSS (power), 42 VDD2.5V (power), 43 VSS (power), 44 VDD2.5V (power), 45 VSS (power), 46 NC, 47 NC, 48 VDD2.5V (power), 49 VSS (power), 50 VSS (power), 59 VSS (power), 60 VDD2.5V (power), 61 VSS (power), 62 VDD2.5V (power), 63 VDD1.2V (power), 64 VSS (power), 65 VDD1.2V (power), 66 VSS (power), 76 VSS (power), 77 VDD1.2V (power), 78 VSS (power), 79 VDD1.2V (power), 80 VSS (power), 81 VDD1.2V (power), 90 VSS (power), 96 VSS (power), 97 VSS (power), 98 VDD1.2V (power), 99 VDD1.2V (power), 100 VSS (power)

## CERN_DCUF-LPCC24
designator IC?
Unique 24-bit Chip Identifier Readable Via I2C, Pin Compatible With DCU2
pins: 1 IA0/IOUT20 (io), 2 IA1 (in), 3 IA2 (in), 4 IA3 (in), 5 IA4 (in), 6 IA5 (in), 7 EXTR (in), 8 GND (power), 9 VDD (power), 10 I2CA3 (in), 11 CLK- (in), 12 CLK+ (in), 13 VDD (power), 14 I2CSDA (io), 15 I2CSCL (in), 16 GND (power), 17 ~{RESET} (in), 18 GND (power), 19 I2CA6 (in), 20 I2CA5 (in), 21 I2CA4 (in), 22 VDD (power), 23 GND (power), 24 IOUT10 (out)

## CERN_GBLD_V4.2
designator IC?
GigaBit Laser Driver V4.2
pins: 1 ~{RSTB} (in), 2 GND (power), 3 VDD (power), 4 DIS (in), 5 SCL (in), 6 SDA (out), 7 VDDC (power), 8 GND (power), 9 DIN- (in), 10 DIN+ (in), 11 GND (power), 12 VDDC (power), 13 HIMODE (in), 14 I2C_A2 (in), 15 I2C_A3 (in), 16 VDD (power), 17 GND (power), 18 IBIAS (out), 19 VDD (power), 20 MODB+ (out), 21 MODA+ (out), 22 MODA- (out), 23 MODB- (out), 24 VDD (power), 25 EP (power)

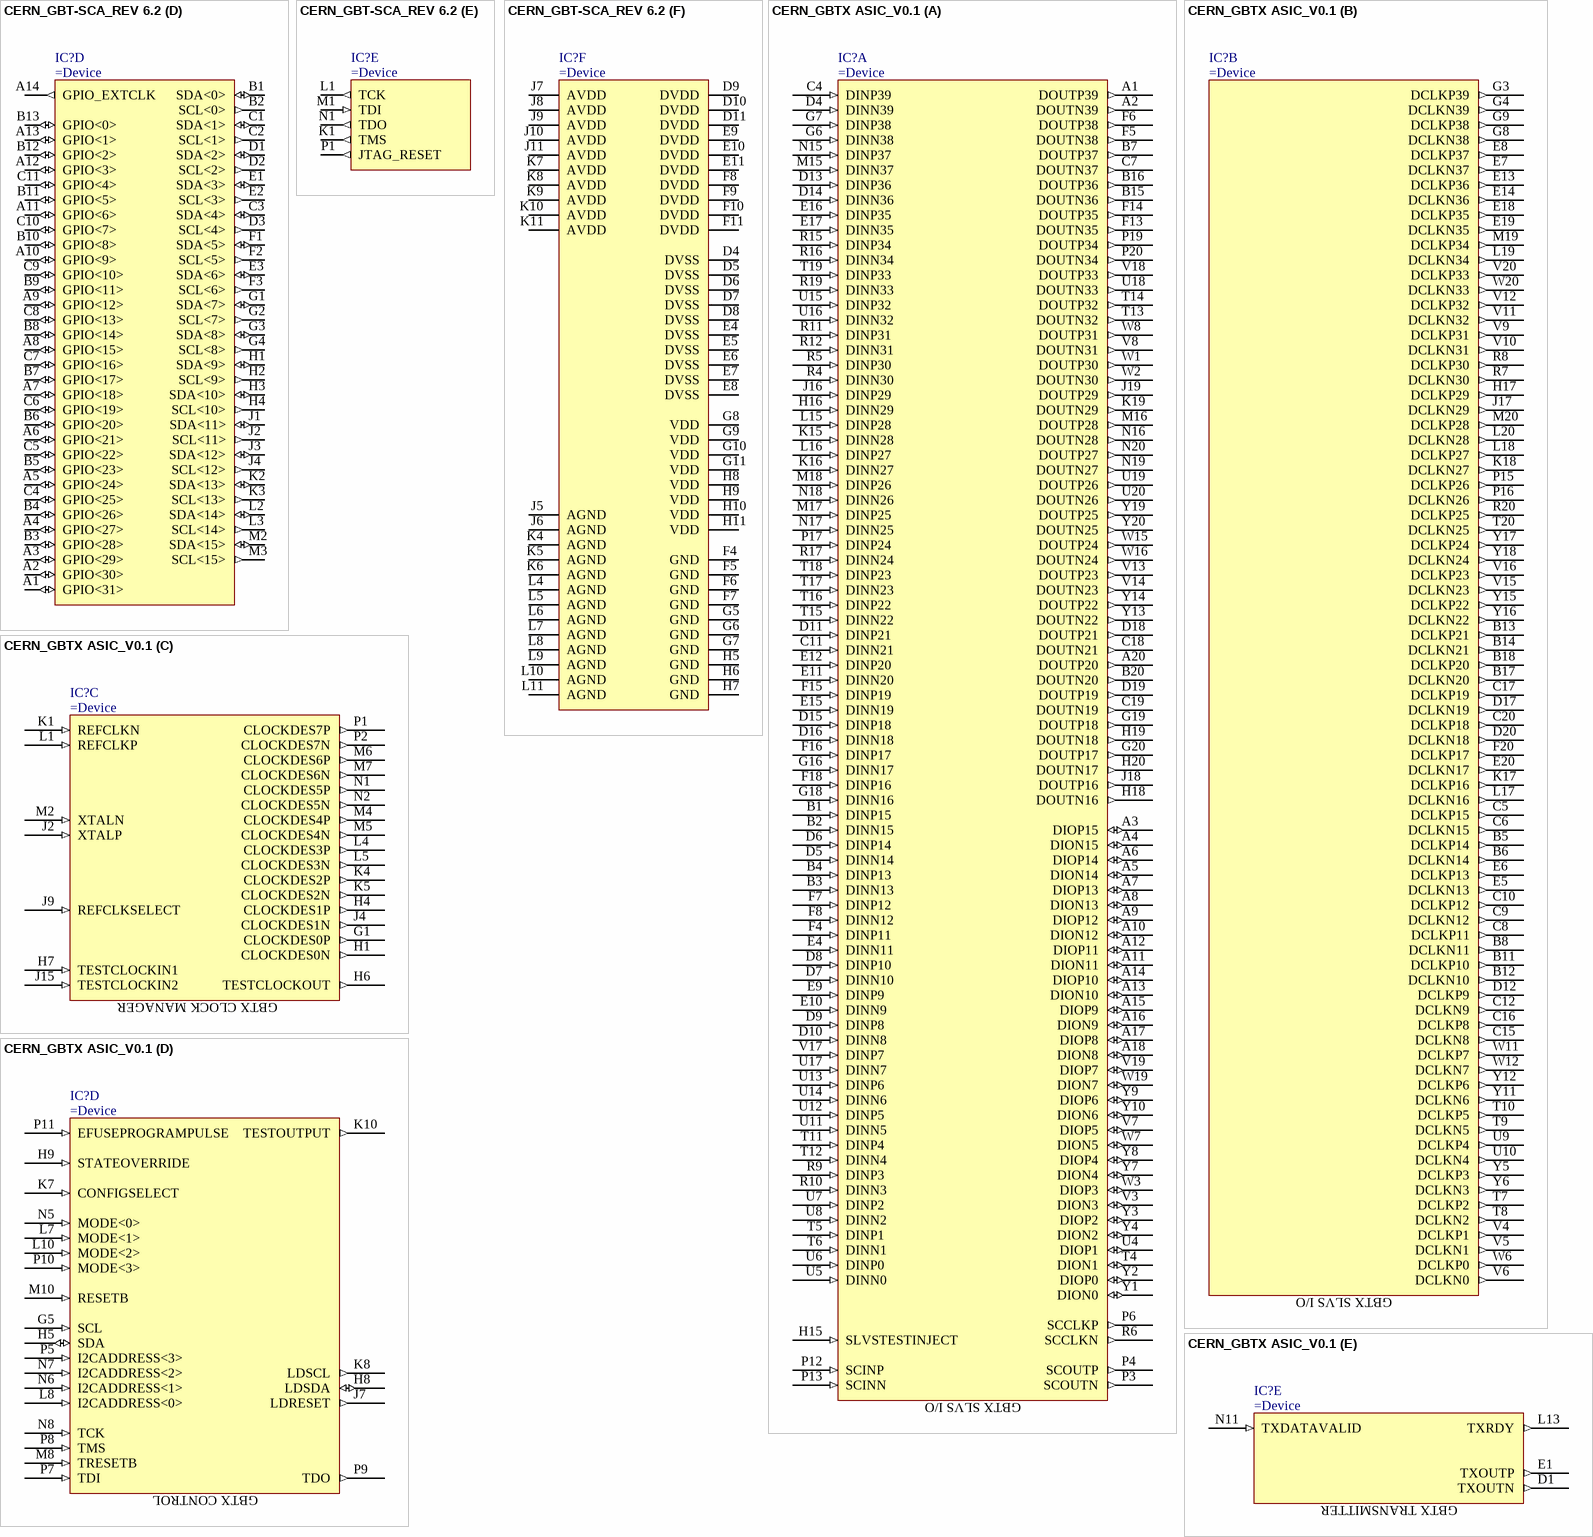
[diagram p25: symbols CERN_GBT-SCA_REV 6.2 to CERN_GBTX ASIC_V0.1]

## CERN_GBT-SCA_REV 6.2
designator IC?
The Slow Control Adapter ASIC for the GBT System
part A pins: F13 TX_SD_AUX_n (out), F14 TX_SD_AUX (out), G12 PWR3_3 (power), G13 RX_SD_AUX_n (in), G14 RX_SD_AUX (in), H12 AUXPORTSDA (io), H13 LINK_CLK_AUX_n (in), H14 LINK_CLK_AUX (in), J12 AUXPORTSCL (in), J13 TX_SD_n (out), J14 TX_SD (out), K12 AUXPORTTESTEN (in), K13 LINK_CLK_n (in), K14 LINK_CLK (in), L12 LINK_AUX_DISABLE (in), L13 RX_SD_n (in), L14 RX_SD (in), M13 FUSEPROGRAMPULSE (in), M14 RESET_B (in)
part B pins: M4 ADC_IN<28> (in), M5 ADC_IN<25> (in), M6 ADC_IN<22> (in), M7 ADC_IN<19> (in), M8 ADC_IN<16> (in), M9 ADC_IN<13> (in), M10 ADC_IN<10> (in), M11 ADC_IN<7> (in), M12 ADC_IN<4> (in), N2 DAC_OUT<1> (out), N3 DAC_OUT<0> (out), N4 ADC_IN<29> (in), N5 ADC_IN<26> (in), N6 ADC_IN<23> (in), N7 ADC_IN<20> (in), N8 ADC_IN<17> (in), N9 ADC_IN<14> (in), N10 ADC_IN<11> (in), N11 ADC_IN<8> (in), N12 ADC_IN<5> (in), N13 ADC_IN<2> (in), N14 ADC_IN<0> (in), P2 DAC_OUT<3> (out), P3 DAC_OUT<2> (out), P4 ADC_IN<30> (in), P5 ADC_IN<27> (in), P6 ADC_IN<24> (in), P7 ADC_IN<21> (in), P8 ADC_IN<18> (in), P9 ADC_IN<15> (in), P10 ADC_IN<12> (in), P11 ADC_IN<9> (in), P12 ADC_IN<6> (in), P13 ADC_IN<3> (in), P14 ADC_IN<1> (in)
part C pins: B14 SPI_CLK (out), C12 SPI_SS<7> (out), C13 SPI_SS<3> (out), C14 SPI_MOSI (out), D12 SPI_SS<6> (out), D13 SPI_SS<2> (out), D14 SPI_MISO (in), E12 SPI_SS<5> (out), E13 SPI_SS<1> (out), E14 SPI_SS<0> (out), F12 SPI_SS<4> (out)
part D pins: A1 GPIO<31> (io), A2 GPIO<30> (io), A3 GPIO<29> (io), A4 GPIO<27> (io), A5 GPIO<24> (io), A6 GPIO<21> (io), A7 GPIO<18> (io), A8 GPIO<15> (io), A9 GPIO<12> (io), A10 GPIO<9> (io), A11 GPIO<6> (io), A12 GPIO<3> (io), A13 GPIO<1> (io), A14 GPIO_EXTCLK (out), B1 SDA<0> (io), B2 SCL<0> (out), B3 GPIO<28> (io), B4 GPIO<26> (io), B5 GPIO<23> (io), B6 GPIO<20> (io), B7 GPIO<17> (io), B8 GPIO<14> (io), B9 GPIO<11> (io), B10 GPIO<8> (io), B11 GPIO<5> (io), B12 GPIO<2> (io), B13 GPIO<0> (io), C1 SDA<1> (io), C2 SCL<1> (out), C3 SDA<4> (io), C4 GPIO<25> (io), C5 GPIO<22> (io), C6 GPIO<19> (io), C7 GPIO<16> (io), C8 GPIO<13> (io), C9 GPIO<10> (io), C10 GPIO<7> (io), C11 GPIO<4> (io), D1 SDA<2> (io), D2 SCL<2> (out), D3 SCL<4> (out), E1 SDA<3> (io), E2 SCL<3> (out), E3 SDA<6> (io), F1 SDA<5> (io), F2 SCL<5> (out), F3 SCL<6> (out), G1 SDA<7> (io), G2 SCL<7> (out), G3 SDA<8> (io), G4 SCL<8> (out), H1 SDA<9> (io), H2 SCL<9> (out), H3 SDA<10> (io), H4 SCL<10> (out), J1 SDA<11> (io), J2 SCL<11> (out), J3 SDA<12> (io), J4 SCL<12> (out), K2 SDA<13> (io), K3 SCL<13> (out), L2 SDA<14> (io), L3 SCL<14> (out), M2 SDA<15> (io), M3 SCL<15> (out)
part E pins: K1 TMS (out), L1 TCK (out), M1 TDI (in), N1 TDO (out), P1 JTAG_RESET (out)
part F pins: D4 DVSS (power), D5 DVSS (power), D6 DVSS (power), D7 DVSS (power), D8 DVSS (power), D9 DVDD (power), D10 DVDD (power), D11 DVDD (power), E4 DVSS (power), E5 DVSS (power), E6 DVSS (power), E7 DVSS (power), E8 DVSS (power), E9 DVDD (power), E10 DVDD (power), E11 DVDD (power), F4 GND (power), F5 GND (power), F6 GND (power), F7 GND (power), F8 DVDD (power), F9 DVDD (power), F10 DVDD (power), F11 DVDD (power), G5 GND (power), G6 GND (power), G7 GND (power), G8 VDD (power), G9 VDD (power), G10 VDD (power), G11 VDD (power), H5 GND (power), H6 GND (power), H7 GND (power), H8 VDD (power), H9 VDD (power), H10 VDD (power), H11 VDD (power), J5 AGND (power), J6 AGND (power), J7 AVDD (power), J8 AVDD (power), J9 AVDD (power), J10 AVDD (power), J11 AVDD (power), K4 AGND (power), K5 AGND (power), K6 AGND (power), K7 AVDD (power), K8 AVDD (power), K9 AVDD (power), K10 AVDD (power), K11 AVDD (power), L4 AGND (power), L5 AGND (power), L6 AGND (power), L7 AGND (power), L8 AGND (power), L9 AGND (power), L10 AGND (power), L11 AGND (power)

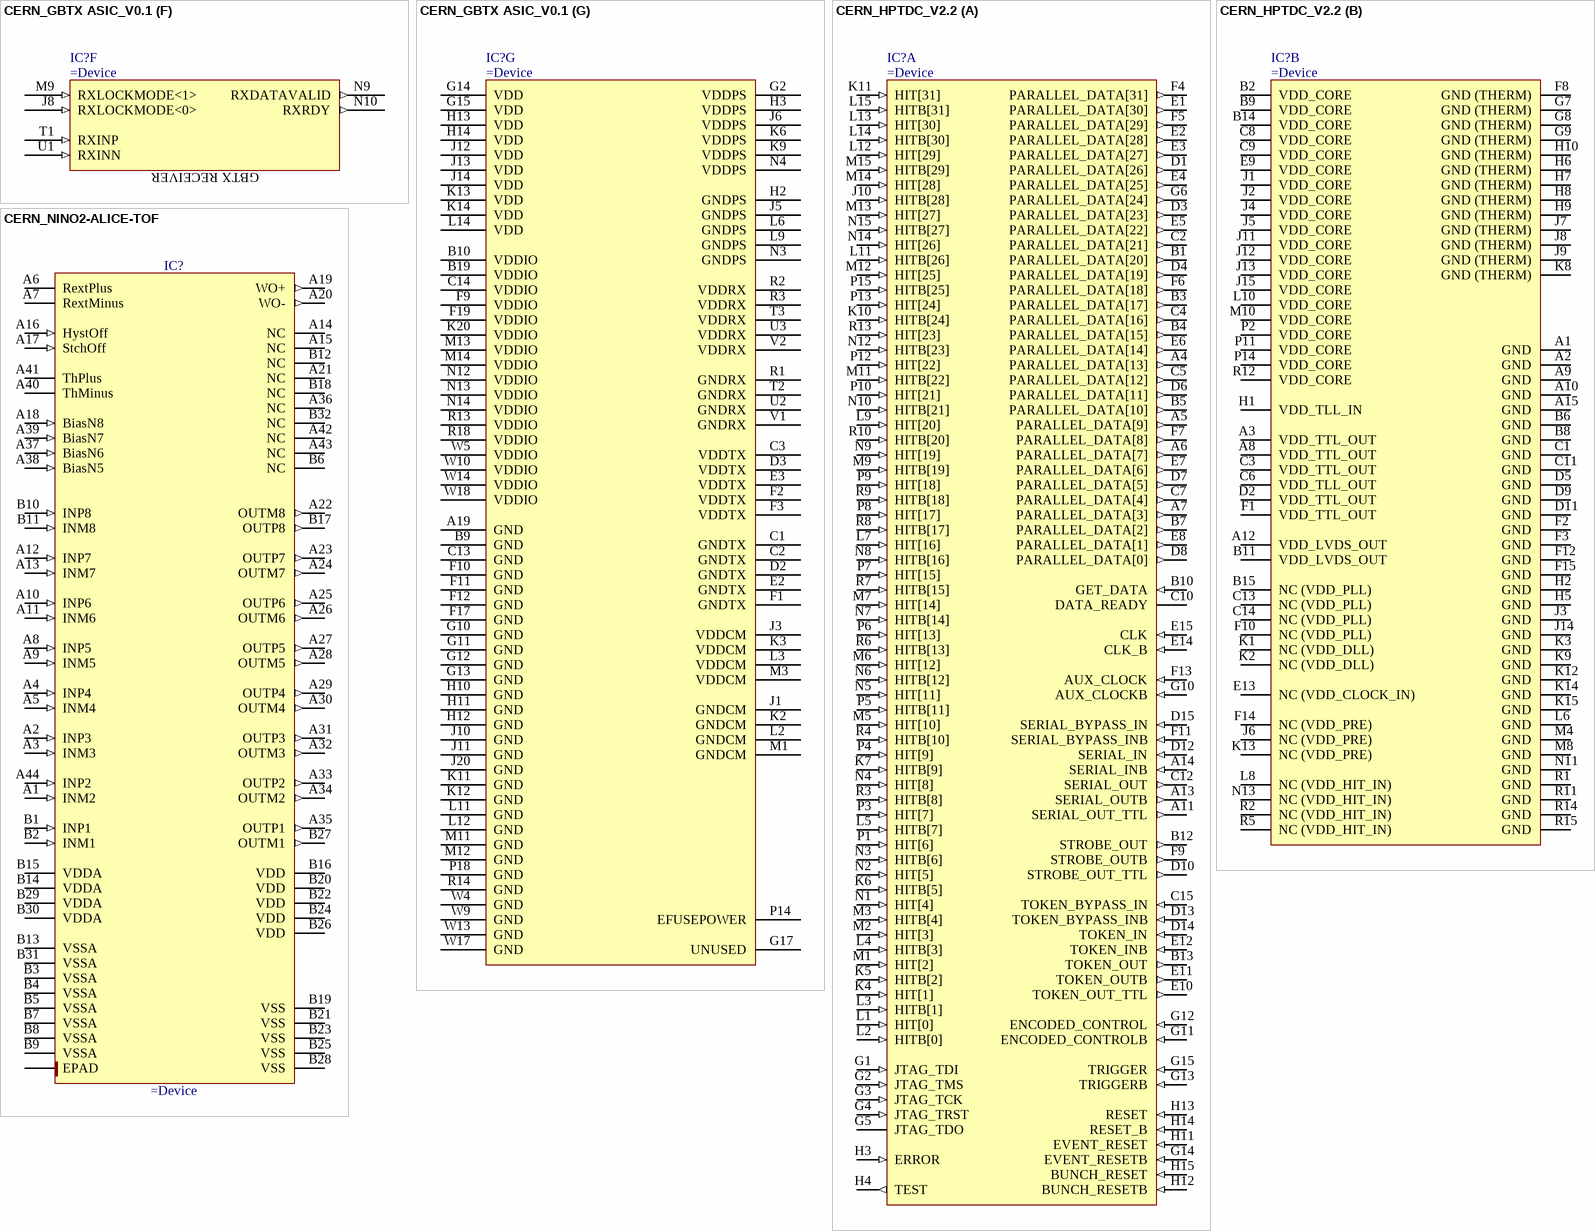
[diagram p26: symbols CERN_GBTX ASIC_V0.1 to CERN_NINO2-ALICE-TOF]

## CERN_GBTX ASIC_V0.1
designator IC?
GigaBit Transceiver ASIC (GBTX)
part A pins: A1 DOUTP39 (out), A2 DOUTN39 (out), A3 DIOP15 (io), A4 DION15 (io), A5 DION14 (io), A6 DIOP14 (io), A7 DIOP13 (io), A8 DION13 (io), A9 DIOP12 (io), A10 DION12 (io), A11 DION11 (io), A12 DIOP11 (io), A13 DION10 (io), A14 DIOP10 (io), A15 DIOP9 (io), A16 DION9 (io), A17 DIOP8 (io), A18 DION8 (io), A20 DOUTP20 (out), B1 DINP15 (in), B2 DINN15 (in), B3 DINN13 (in), B4 DINP13 (in), B7 DOUTP37 (out), B15 DOUTN36 (out), B16 DOUTP36 (out), B20 DOUTN20 (out), C4 DINP39 (in), C7 DOUTN37 (out), C11 DINN21 (in), C18 DOUTN21 (out), C19 DOUTN19 (out), D4 DINN39 (in), D5 DINN14 (in), D6 DINP14 (in), D7 DINN10 (in), D8 DINP10 (in), D9 DINP8 (in), D10 DINN8 (in), D11 DINP21 (in), D13 DINP36 (in), D14 DINN36 (in), D15 DINP18 (in), D16 DINN18 (in), D18 DOUTP21 (out), D19 DOUTP19 (out), E4 DINN11 (in), E9 DINP9 (in), E10 DINN9 (in), E11 DINN20 (in), E12 DINP20 (in), E15 DINN19 (in), E16 DINP35 (in), E17 DINN35 (in), F4 DINP11 (in), F5 DOUTN38 (out), F6 DOUTP38 (out), F7 DINP12 (in), F8 DINN12 (in), F13 DOUTN35 (out), F14 DOUTP35 (out), F15 DINP19 (in), F16 DINP17 (in), F18 DINP16 (in), G6 DINN38 (in), G7 DINP38 (in), G16 DINN17 (in), G18 DINN16 (in), G19 DOUTP18 (out), G20 DOUTP17 (out), H15 SLVSTESTINJECT (in), H16 DINN29 (in), H18 DOUTN16 (out), H19 DOUTN18 (out), H20 DOUTN17 (out), J16 DINP29 (in), J18 DOUTP16 (out), J19 DOUTP29 (out), K15 DINN28 (in), K16 DINN27 (in), K19 DOUTN29 (out), L15 DINP28 (in), L16 DINP27 (in), M15 DINN37 (in), M16 DOUTP28 (out), M17 DINP25 (in), M18 DINP26 (in), N15 DINP37 (in), N16 DOUTN28 (out), N17 DINN25 (in), N18 DINN26 (in), N19 DOUTN27 (out), N20 DOUTP27 (out), P3 SCOUTN (out), P4 SCOUTP (out), P6 SCCLKP (out), P12 SCINP (in), P13 SCINN (in), P17 DINP24 (in), P19 DOUTP34 (out), P20 DOUTN34 (out), R4 DINN30 (in), R5 DINP30 (in), R6 SCCLKN (out), R9 DINP3 (in), R10 DINN3 (in), R11 DINP31 (in), R12 DINN31 (in), R15 DINP34 (in), R16 DINN34 (in), R17 DINN24 (in), R19 DINN33 (in), T4 DION1 (io), T5 DINP1 (in), T6 DINN1 (in), T11 DINP4 (in), T12 DINN4 (in), T13 DOUTN32 (out), T14 DOUTP32 (out), T15 DINN22 (in), T16 DINP22 (in), T17 DINN23 (in), T18 DINP23 (in), T19 DINP33 (in), U4 DIOP1 (io), U5 DINN0 (in), U6 DINP0 (in), U7 DINP2 (in), U8 DINN2 (in), U11 DINN5 (in), U12 DINP5 (in), U13 DINP6 (in), U14 DINN6 (in), U15 DINP32 (in), U16 DINN32 (in), U17 DINN7 (in), U18 DOUTN33 (out), U19 DOUTP26 (out), U20 DOUTN26 (out), V3 DION3 (io), V7 DIOP5 (io), V8 DOUTN31 (out), V13 DOUTP23 (out), V14 DOUTN23 (out), V17 DINP7 (in), V18 DOUTP33 (out), V19 DIOP7 (io), W1 DOUTP30 (out), W2 DOUTN30 (out), W3 DIOP3 (io), W7 DION5 (io), W8 DOUTP31 (out), W15 DOUTP24 (out), W16 DOUTN24 (out), W19 DION7 (io), Y1 DION0 (io), Y2 DIOP0 (io), Y3 DIOP2 (io), Y4 DION2 (io), Y7 DION4 (io), Y8 DIOP4 (io), Y9 DIOP6 (io), Y10 DION6 (io), Y13 DOUTN22 (out), Y14 DOUTP22 (out), Y19 DOUTP25 (out), Y20 DOUTN25 (out)
part B pins: B5 DCLKP14 (out), B6 DCLKN14 (out), B8 DCLKN11 (out), B11 DCLKP10 (out), B12 DCLKN10 (out), B13 DCLKP21 (out), B14 DCLKN21 (out), B17 DCLKN20 (out), B18 DCLKP20 (out), C5 DCLKP15 (out), C6 DCLKN15 (out), C8 DCLKP11 (out), C9 DCLKN12 (out), C10 DCLKP12 (out), C12 DCLKN9 (out), C15 DCLKN8 (out), C16 DCLKP8 (out), C17 DCLKP19 (out), C20 DCLKP18 (out), D12 DCLKP9 (out), D17 DCLKN19 (out), D20 DCLKN18 (out), E5 DCLKN13 (out), E6 DCLKP13 (out), E7 DCLKN37 (out), E8 DCLKP37 (out), E13 DCLKP36 (out), E14 DCLKN36 (out), E18 DCLKP35 (out), E19 DCLKN35 (out), E20 DCLKN17 (out), F20 DCLKP17 (out), G3 DCLKP39 (out), G4 DCLKN39 (out), G8 DCLKN38 (out), G9 DCLKP38 (out), H17 DCLKP29 (out), J17 DCLKN29 (out), K17 DCLKP16 (out), K18 DCLKN27 (out), L17 DCLKN16 (out), L18 DCLKP27 (out), L19 DCLKN34 (out), L20 DCLKN28 (out), M19 DCLKP34 (out), M20 DCLKP28 (out), P15 DCLKP26 (out), P16 DCLKN26 (out), R7 DCLKN30 (out), R8 DCLKP30 (out), R20 DCLKP25 (out), T7 DCLKP2 (out), T8 DCLKN2 (out), T9 DCLKN5 (out), T10 DCLKP5 (out), T20 DCLKN25 (out), U9 DCLKP4 (out), U10 DCLKN4 (out), V4 DCLKP1 (out), V5 DCLKN1 (out), V6 DCLKN0 (out), V9 DCLKP31 (out), V10 DCLKN31 (out), V11 DCLKN32 (out), V12 DCLKP32 (out), V15 DCLKN23 (out), V16 DCLKP23 (out), V20 DCLKP33 (out), W6 DCLKP0 (out), W11 DCLKP7 (out), W12 DCLKN7 (out), W20 DCLKN33 (out), Y5 DCLKP3 (out), Y6 DCLKN3 (out), Y11 DCLKN6 (out), Y12 DCLKP6 (out), Y15 DCLKP22 (out), Y16 DCLKN22 (out), Y17 DCLKP24 (out), Y18 DCLKN24 (out)
part C pins: G1 CLOCKDES0P (out), H1 CLOCKDES0N (out), H4 CLOCKDES1P (out), H6 TESTCLOCKOUT (out), H7 TESTCLOCKIN1 (in), J2 XTALP (in), J4 CLOCKDES1N (out), J9 REFCLKSELECT (in), J15 TESTCLOCKIN2 (in), K1 REFCLKN (in), K4 CLOCKDES2P (out), K5 CLOCKDES2N (out), L1 REFCLKP (in), L4 CLOCKDES3P (out), L5 CLOCKDES3N (out), M2 XTALN (in), M4 CLOCKDES4P (out), M5 CLOCKDES4N (out), M6 CLOCKDES6P (out), M7 CLOCKDES6N (out), N1 CLOCKDES5P (out), N2 CLOCKDES5N (out), P1 CLOCKDES7P (out), P2 CLOCKDES7N (out)
part D pins: G5 SCL (in), H5 SDA (io), H8 LDSDA (io), H9 STATEOVERRIDE (in), J7 LDRESET (out), K7 CONFIGSELECT (in), K8 LDSCL (out), K10 TESTOUTPUT (out), L7 MODE<1> (in), L8 I2CADDRESS<0> (in), L10 MODE<2> (in), M8 TRESETB (in), M10 RESETB (in), N5 MODE<0> (in), N6 I2CADDRESS<1> (in), N7 I2CADDRESS<2> (in), N8 TCK (in), P5 I2CADDRESS<3> (in), P7 TDI (in), P8 TMS (in), P9 TDO (out), P10 MODE<3> (in), P11 EFUSEPROGRAMPULSE (in)
part E pins: D1 TXOUTN (out), E1 TXOUTP (out), L13 TXRDY (out), N11 TXDATAVALID (in)
part F pins: J8 RXLOCKMODE<0> (in), M9 RXLOCKMODE<1> (in), N9 RXDATAVALID (out), N10 RXRDY (out), T1 RXINP (in), U1 RXINN (in)
part G pins: A19 GND (power), B9 GND (power), B10 VDDIO (power), B19 VDDIO (power), C1 GNDTX (power), C2 GNDTX (power), C3 VDDTX (power), C13 GND (power), C14 VDDIO (power), D2 GNDTX (power), D3 VDDTX (power), E2 GNDTX (power), E3 VDDTX (power), F1 GNDTX (power), F2 VDDTX (power), F3 VDDTX (power), F9 VDDIO (power), F10 GND (power), F11 GND (power), F12 GND (power), F17 GND (power), F19 VDDIO (power), G2 VDDPS (power), G10 GND (power), G11 GND (power), G12 GND (power), G13 GND (power), G14 VDD (power), G15 VDD (power), G17 UNUSED, H2 GNDPS (power), H3 VDDPS (power), H10 GND (power), H11 GND (power), H12 GND (power), H13 VDD (power), H14 VDD (power), J1 GNDCM (power), J3 VDDCM (power), J5 GNDPS (power), J6 VDDPS (power), J10 GND (power), J11 GND (power), J12 VDD (power), J13 VDD (power), J14 VDD (power), J20 GND (power), K2 GNDCM (power), K3 VDDCM (power), K6 VDDPS (power), K9 VDDPS (power), K11 GND (power), K12 GND (power), K13 VDD (power), K14 VDD (power), K20 VDDIO (power), L2 GNDCM (power), L3 VDDCM (power), L6 GNDPS (power), L9 GNDPS (power), L11 GND (power), L12 GND (power), L14 VDD (power), M1 GNDCM (power), M3 VDDCM (power), M11 GND (power), M12 GND (power), M13 VDDIO (power), M14 VDDIO (power), N3 GNDPS (power), N4 VDDPS (power), N12 VDDIO (power), N13 VDDIO (power), N14 VDDIO (power), P14 EFUSEPOWER (power), P18 GND (power), R1 GNDRX (power), R2 VDDRX (power), R3 VDDRX (power), R13 VDDIO (power), R14 GND (power), R18 VDDIO (power), T2 GNDRX (power), T3 VDDRX (power), U2 GNDRX (power), U3 VDDRX (power), V1 GNDRX (power), V2 VDDRX (power), W4 GND (power), W5 VDDIO (power), W9 GND (power), W10 VDDIO (power), W13 GND (power), W14 VDDIO (power), W17 GND (power), W18 VDDIO (power)
part A text: GBTX SLVS I/O
part B text: GBTX SLVS I/O
part C text: GBTX CLOCK MANAGER
part D text: GBTX CONTROL
part E text: GBTX TRANSMITTER
part F text: GBTX RECEIVER

## CERN_HPTDC_V2.2
designator IC?
High Performance Time to Digital Converter (HPTDC)
part A pins: A4 PARALLEL_DATA[13] (out), A5 PARALLEL_DATA[9] (out), A6 PARALLEL_DATA[7] (out), A7 PARALLEL_DATA[3] (out), A11 SERIAL_OUT_TTL (out), A13 SERIAL_OUTB (out), A14 SERIAL_INB (in), B1 PARALLEL_DATA[20] (out), B3 PARALLEL_DATA[17] (out), B4 PARALLEL_DATA[15] (out), B5 PARALLEL_DATA[10] (out), B7 PARALLEL_DATA[2] (out), B10 GET_DATA (in), B12 STROBE_OUT (out), B13 TOKEN_OUT (out), C2 PARALLEL_DATA[21] (out), C4 PARALLEL_DATA[16] (out), C5 PARALLEL_DATA[12] (out), C7 PARALLEL_DATA[4] (out), C10 DATA_READY (hiz), C12 SERIAL_OUT (out), C15 TOKEN_BYPASS_IN (in), D1 PARALLEL_DATA[26] (out), D3 PARALLEL_DATA[23] (out), D4 PARALLEL_DATA[19] (out), D6 PARALLEL_DATA[11] (out), D7 PARALLEL_DATA[5] (out), D8 PARALLEL_DATA[0] (out), D10 STROBE_OUT_TTL (out), D12 SERIAL_IN (in), D13 TOKEN_BYPASS_INB (in), D14 TOKEN_IN (in), D15 SERIAL_BYPASS_IN (in), E1 PARALLEL_DATA[30] (out), E2 PARALLEL_DATA[28] (out), E3 PARALLEL_DATA[27] (out), E4 PARALLEL_DATA[25] (out), E5 PARALLEL_DATA[22] (out), E6 PARALLEL_DATA[14] (out), E7 PARALLEL_DATA[6] (out), E8 PARALLEL_DATA[1] (out), E10 TOKEN_OUT_TTL (out), E11 TOKEN_OUTB (out), E12 TOKEN_INB (in), E14 CLK_B (in), E15 CLK (in), F4 PARALLEL_DATA[31] (out), F5 PARALLEL_DATA[29] (out), F6 PARALLEL_DATA[18] (out), F7 PARALLEL_DATA[8] (out), F9 STROBE_OUTB (out), F11 SERIAL_BYPASS_INB (in), F13 AUX_CLOCK (in), G1 JTAG_TDI (in), G2 JTAG_TMS (in), G3 JTAG_TCK (in), G4 JTAG_TRST (in), G5 JTAG_TDO (hiz), G6 PARALLEL_DATA[24] (out), G10 AUX_CLOCKB (in), G11 ENCODED_CONTROLB (in), G12 ENCODED_CONTROL (in), G13 TRIGGERB (in), G14 EVENT_RESETB (in), G15 TRIGGER (in), H3 ERROR (in), H4 TEST (out), H11 EVENT_RESET (in), H12 BUNCH_RESETB (in), H13 RESET (in), H14 RESET_B (in), H15 BUNCH_RESET (in), J10 HITB[28] (in), K4 HIT[1] (in), K5 HITB[2] (in), K6 HITB[5] (in), K7 HITB[9] (in), K10 HITB[24] (in), K11 HIT[31] (in), L1 HIT[0] (in), L2 HITB[0] (in), L3 HITB[1] (in), L4 HITB[3] (in), L5 HITB[7] (in), L7 HIT[16] (in), L9 HIT[20] (in), L11 HITB[26] (in), L12 HIT[29] (in), L13 HIT[30] (in), L14 HITB[30] (in), L15 HITB[31] (in), M1 HIT[2] (in), M2 HIT[3] (in), M3 HITB[4] (in), M5 HIT[10] (in), M6 HIT[12] (in), M7 HIT[14] (in), M9 HITB[19] (in), M11 HITB[22] (in), M12 HIT[25] (in), M13 HIT[27] (in), M14 HIT[28] (in), M15 HITB[29] (in), N1 HIT[4] (in), N2 HIT[5] (in), N3 HITB[6] (in), N4 HIT[8] (in), N5 HIT[11] (in), N6 HITB[12] (in), N7 HITB[14] (in), N8 HITB[16] (in), N9 HIT[19] (in), N10 HITB[21] (in), N12 HITB[23] (in), N14 HIT[26] (in), N15 HITB[27] (in), P1 HIT[6] (in), P3 HIT[7] (in), P4 HIT[9] (in), P5 HITB[11] (in), P6 HIT[13] (in), P7 HIT[15] (in), P8 HIT[17] (in), P9 HIT[18] (in), P10 HIT[21] (in), P12 HIT[22] (in), P13 HIT[24] (in), P15 HITB[25] (in), R3 HITB[8] (in), R4 HITB[10] (in), R6 HITB[13] (in), R7 HITB[15] (in), R8 HITB[17] (in), R9 HITB[18] (in), R10 HITB[20] (in), R13 HIT[23] (in)
part B pins: A1 GND (power), A2 GND (power), A3 VDD_TTL_OUT (power), A8 VDD_TTL_OUT (power), A9 GND (power), A10 GND (power), A12 VDD_LVDS_OUT (power), A15 GND (power), B2 VDD_CORE (power), B6 GND (power), B8 GND (power), B9 VDD_CORE (power), B11 VDD_LVDS_OUT (power), B14 VDD_CORE (power), B15 NC (VDD_PLL), C1 GND (power), C3 VDD_TTL_OUT (power), C6 VDD_TLL_OUT (power), C8 VDD_CORE (power), C9 VDD_CORE (power), C11 GND (power), C13 NC (VDD_PLL), C14 NC (VDD_PLL), D2 VDD_TTL_OUT (power), D5 GND (power), D9 GND (power), D11 GND (power), E9 VDD_CORE (power), E13 NC (VDD_CLOCK_IN), F1 VDD_TTL_OUT (power), F2 GND (power), F3 GND (power), F8 GND (THERM) (power), F10 NC (VDD_PLL), F12 GND (power), F14 NC (VDD_PRE), F15 GND (power), G7 GND (THERM) (power), G8 GND (THERM) (power), G9 GND (THERM) (power), H1 VDD_TLL_IN (power), H2 GND (power), H5 GND (power), H6 GND (THERM) (power), H7 GND (THERM) (power), H8 GND (THERM) (power), H9 GND (THERM) (power), H10 GND (THERM) (power), J1 VDD_CORE (power), J2 VDD_CORE (power), J3 GND (power), J4 VDD_CORE (power), J5 VDD_CORE (power), J6 NC (VDD_PRE), J7 GND (THERM) (power), J8 GND (THERM) (power), J9 GND (THERM) (power), J11 VDD_CORE (power), J12 VDD_CORE (power), J13 VDD_CORE (power), J14 GND (power), J15 VDD_CORE (power), K1 NC (VDD_DLL), K2 NC (VDD_DLL), K3 GND (power), K8 GND (THERM) (power), K9 GND (power), K12 GND (power), K13 NC (VDD_PRE), K14 GND (power), K15 GND (power), L6 GND (power), L8 NC (VDD_HIT_IN), L10 VDD_CORE (power), M4 GND (power), M8 GND (power), M10 VDD_CORE (power), N11 GND (power), N13 NC (VDD_HIT_IN), P2 VDD_CORE (power), P11 VDD_CORE (power), P14 VDD_CORE (power), R1 GND (power), R2 NC (VDD_HIT_IN), R5 NC (VDD_HIT_IN), R11 GND (power), R12 VDD_CORE (power), R14 GND (power), R15 GND (power)

## CERN_NINO2-ALICE-TOF
designator IC?
Fast front-end preamplifier-discriminator chip developed by ALICE
pins: A1 INM2 (in), A2 INP3 (in), A3 INM3 (in), A4 INP4 (in), A5 INM4 (in), A6 RextPlus, A7 RextMinus, A8 INP5 (in), A9 INM5 (in), A10 INP6 (in), A11 INM6 (in), A12 INP7 (in), A13 INM7 (in), A14 NC, A15 NC, A16 HystOff (in), A17 StchOff (in), A18 BiasN8 (in), A19 WO+ (out), A20 WO- (out), A21 NC, A22 OUTM8 (out), A23 OUTP7 (out), A24 OUTM7 (out), A25 OUTP6 (out), A26 OUTM6 (out), A27 OUTP5 (out), A28 OUTM5 (out), A29 OUTP4 (out), A30 OUTM4 (out), A31 OUTP3 (out), A32 OUTM3 (out), A33 OUTP2 (out), A34 OUTM2 (out), A35 OUTP1 (out), A36 NC, A37 BiasN6 (in), A38 BiasN5 (in), A39 BiasN7 (in), A40 ThMinus, A41 ThPlus, A42 NC, A43 NC, A44 INP2 (in), B1 INP1 (in), B2 INM1 (in), B3 VSSA (power), B4 VSSA (power), B5 VSSA (power), B6 NC, B7 VSSA (power), B8 VSSA (power), B9 VSSA (power), B10 INP8 (in), B11 INM8 (in), B12 NC, B13 VSSA (power), B14 VDDA (power), B15 VDDA (power), B16 VDD (power), B17 OUTP8 (out), B18 NC, B19 VSS (power), B20 VDD (power), B21 VSS (power), B22 VDD (power), B23 VSS (power), B24 VDD (power), B25 VSS (power), B26 VDD (power), B27 OUTM1 (out), B28 VSS (power), B29 VDDA (power), B30 VDDA (power), B31 VSSA (power), B32 NC, EP EPAD (power)

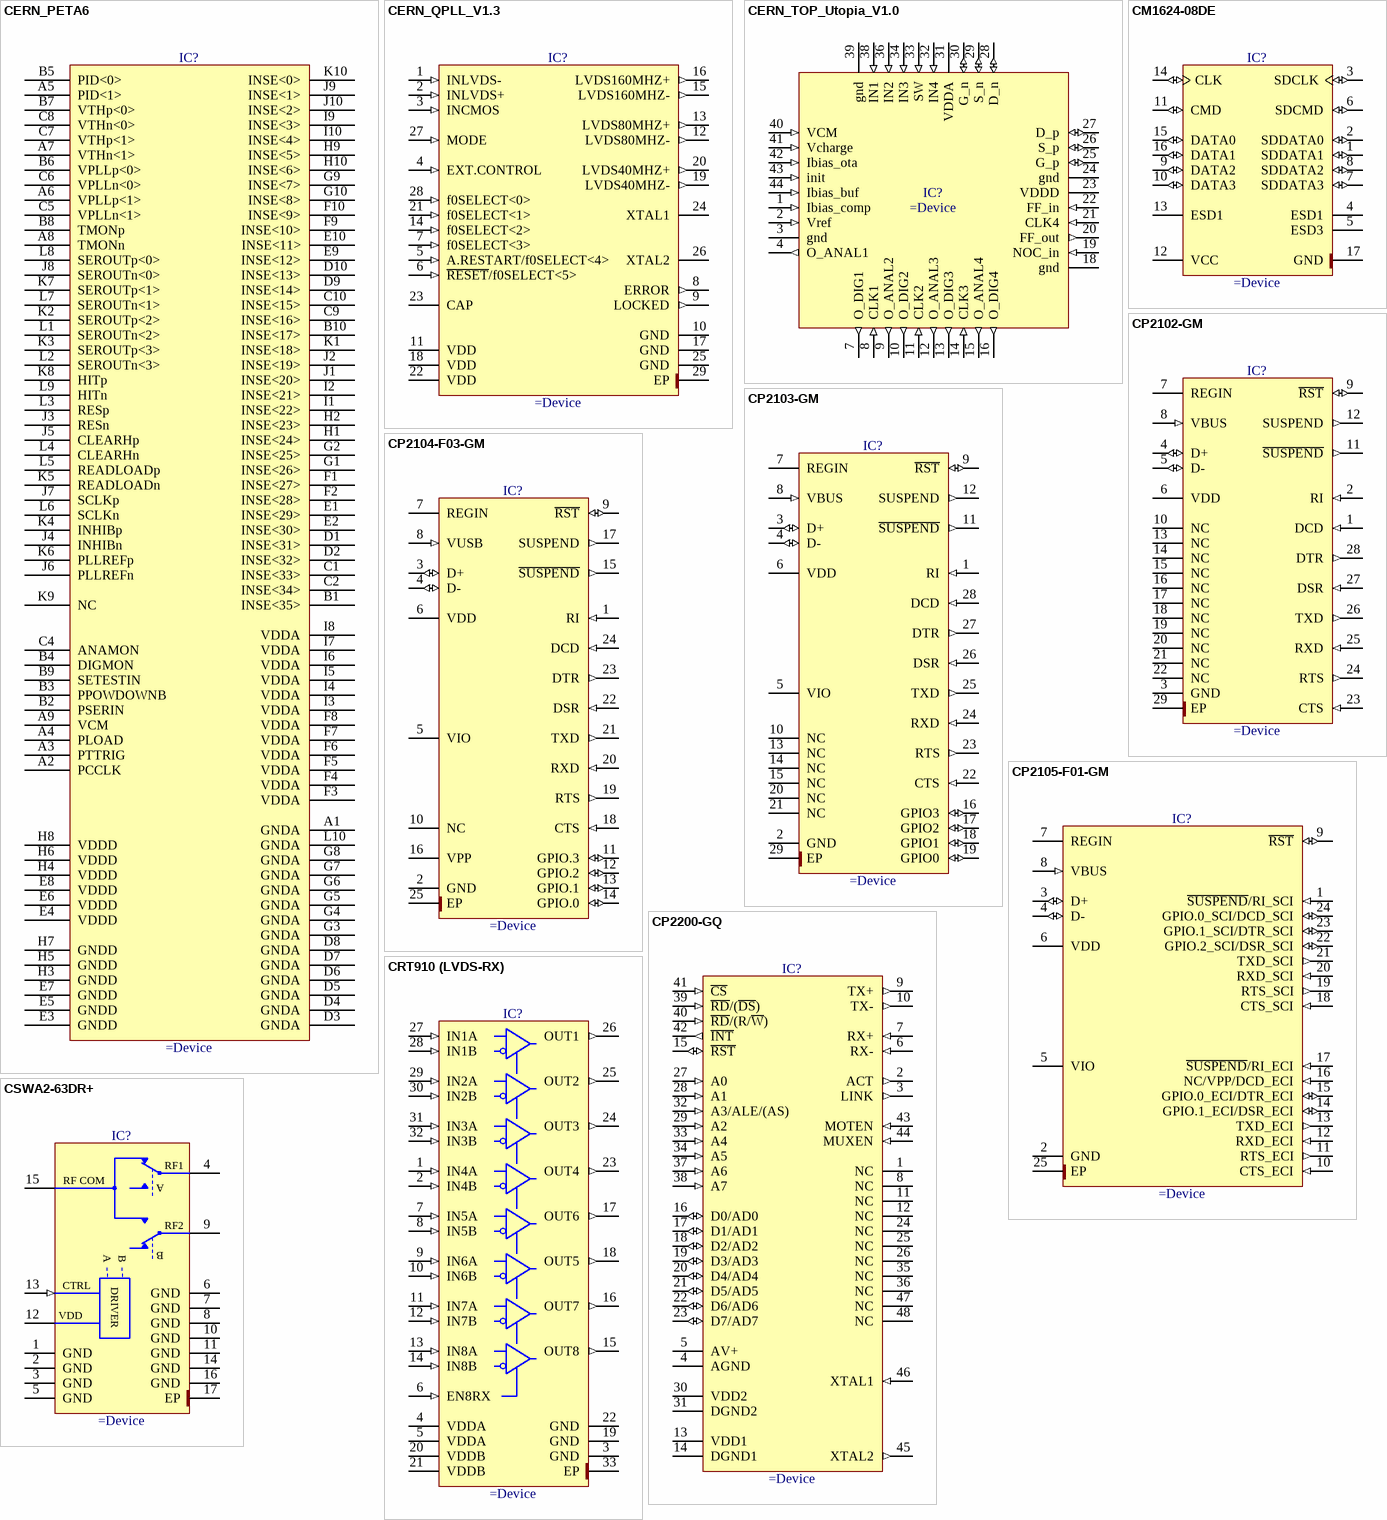
[diagram p27: symbols CERN_PETA6 to CSWA2-63DR+]

## CERN_PETA6
designator IC?
Multi Channel Readout ASIC for Analogue SiPMs Sensors
pins: A1 GNDA, A2 PCCLK, A3 PTTRIG, A4 PLOAD, A5 PID<1>, A6 VPLLp<1>, A7 VTHn<1>, A8 TMONn, A9 VCM, B1 INSE<35>, B2 PSERIN, B3 PPOWDOWNB, B4 DIGMON, B5 PID<0>, B6 VPLLp<0>, B7 VTHp<0>, B8 TMONp, B9 SETESTIN, B10 INSE<17>, C1 INSE<33>, C2 INSE<34>, C4 ANAMON, C5 VPLLn<1>, C6 VPLLn<0>, C7 VTHp<1>, C8 VTHn<0>, C9 INSE<16>, C10 INSE<15>, D1 INSE<31>, D2 INSE<32>, D3 GNDA, D4 GNDA, D5 GNDA, D6 GNDA, D7 GNDA, D8 GNDA, D9 INSE<14>, D10 INSE<13>, E1 INSE<29>, E2 INSE<30>, E3 GNDD, E4 VDDD, E5 GNDD, E6 VDDD, E7 GNDD, E8 VDDD, E9 INSE<12>, E10 INSE<11>, F1 INSE<27>, F2 INSE<28>, F3 VDDA, F4 VDDA, F5 VDDA, F6 VDDA, F7 VDDA, F8 VDDA, F9 INSE<10>, F10 INSE<9>, G1 INSE<26>, G2 INSE<25>, G3 GNDA, G4 GNDA, G5 GNDA, G6 GNDA, G7 GNDA, G8 GNDA, G9 INSE<7>, G10 INSE<8>, H1 INSE<24>, H2 INSE<23>, H3 GNDD, H4 VDDD, H5 GNDD, H6 VDDD, H7 GNDD, H8 VDDD, H9 INSE<5>, H10 INSE<6>, I1 INSE<22>, I2 INSE<21>, I3 VDDA, I4 VDDA, I5 VDDA, I6 VDDA, I7 VDDA, I8 VDDA, I9 INSE<3>, I10 INSE<4>, J1 INSE<20>, J2 INSE<19>, J3 RESn, J4 INHIBn, J5 CLEARHp, J6 PLLREFn, J7 SCLKp, J8 SEROUTn<0>, J9 INSE<1>, J10 INSE<2>, K1 INSE<18>, K2 SEROUTp<2>, K3 SEROUTp<3>, K4 INHIBp, K5 READLOADn, K6 PLLREFp, K7 SEROUTp<1>, K8 HITp, K9 NC, K10 INSE<0>, L1 SEROUTn<2>, L2 SEROUTn<3>, L3 RESp, L4 CLEARHn, L5 READLOADp, L6 SCLKn, L7 SEROUTn<1>, L8 SEROUTp<0>, L9 HITn, L10 GNDA

## CERN_QPLL_V1.3
designator IC?
Quartz Crystal Based Phase-Locked Loop (QPLL) for Jitter Filtering Application in LHC
pins: 1 INLVDS- (in), 2 INLVDS+ (in), 3 INCMOS (in), 4 EXT.CONTROL (in), 5 A.RESTART/f0SELECT<4> (in), 6 ~{RESET}/f0SELECT<5> (in), 7 f0SELECT<3> (in), 8 ERROR (out), 9 LOCKED (out), 10 GND (power), 11 VDD (power), 12 LVDS80MHZ- (out), 13 LVDS80MHZ+ (out), 14 f0SELECT<2> (in), 15 LVDS160MHZ- (out), 16 LVDS160MHZ+ (out), 17 GND (power), 18 VDD (power), 19 LVDS40MHZ- (out), 20 LVDS40MHZ+ (out), 21 f0SELECT<1> (in), 22 VDD (power), 23 CAP (power), 24 XTAL1, 25 GND (power), 26 XTAL2, 27 MODE (in), 28 f0SELECT<0> (in), 29 EP (power)

## CERN_TOP_Utopia_V1.0
designator IC?
Synchronous Charge to Frequency Converter (CFC) Architecture Tester (Asic developed at CERN)
pins: 1 Ibias_comp (in), 2 Vref (in), 3 gnd (power), 4 O_ANAL1 (out), 7 O_DIG1 (out), 8 CLK1 (in), 9 O_ANAL2 (out), 10 O_DIG2 (out), 11 CLK2 (in), 12 O_ANAL3 (out), 13 O_DIG3 (out), 14 CLK3 (in), 15 O_ANAL4 (out), 16 O_DIG4 (out), 18 gnd (power), 19 NOC_in (in), 20 FF_out (out), 21 CLK4 (in), 22 FF_in (in), 23 VDDD (power), 24 gnd (power), 25 G_p (io), 26 S_p (io), 27 D_p (io), 28 D_n (io), 29 S_n (io), 30 G_n (io), 31 VDDA (power), 32 IN4 (in), 33 SW (in), 34 IN3 (in), 36 IN2 (in), 38 IN1 (in), 39 gnd (power), 40 VCM (in), 41 Vcharge (in), 42 Ibias_ota (in), 43 init (in), 44 Ibias_buf (in)

## CM1624-08DE
designator IC?
EMI Filter for T-Flash/MicroSD Interface
pins: 1 SDDATA1 (io) "Data line #1 input/output with pull-up resistor", 2 SDDATA0 (io) "Data line #0 input/output with pull-up resistor", 3 SDCLK (io) "Clock line Input/Output", 4 ESD1 "Single ESD", 5 ESD3 "Single ESD", 6 SDCMD (io) "Command Line Input/Output", 7 SDDATA3 (io) "Data line #3 input/output with pull-up resistor", 8 SDDATA2 (io) "Data line #2 input/output with pull-up resistor", 9 DATA2 (io) "Data line #2 input/output with pull-up resistor", 10 DATA3 (io) "Data line #3 input/output with pull-up resistor", 11 CMD (io) "Command Line Input/Output", 12 VCC (power) "Power Supply ESD Protection", 13 ESD1 "Single ESD", 14 CLK (io) "Clock line Input/Output", 15 DATA0 (io) "Data line #0 input/output with pull-up resistor", 16 DATA1 (io) "Data line #1 input/output with pull-up resistor", 17 GND (power) "Ground return to shield"

## CP2102-GM
designator IC?
Single-Chip USB to UART Bridge
pins: 1 DCD (in), 2 RI (in), 3 GND (power), 4 D+ (io), 5 D- (io), 6 VDD (power), 7 REGIN (power), 8 VBUS (in), 9 ~{RST} (io), 10 NC, 11 ~{SUSPEND} (out), 12 SUSPEND (out), 13 NC, 14 NC, 15 NC, 16 NC, 17 NC, 18 NC, 19 NC, 20 NC, 21 NC, 22 NC, 23 CTS (in), 24 RTS (out), 25 RXD (in), 26 TXD (out), 27 DSR (in), 28 DTR (out), 29 EP (power)

## CP2103-GM
designator IC?
Single-Chip USB to UART Bridge
pins: 1 RI (in), 2 GND (power), 3 D+ (io), 4 D- (io), 5 VIO (power), 6 VDD (power), 7 REGIN (power), 8 VBUS (in), 9 ~{RST} (io), 10 NC, 11 ~{SUSPEND} (out), 12 SUSPEND (out), 13 NC, 14 NC, 15 NC, 16 GPIO3 (io), 17 GPIO2 (io), 18 GPIO1 (io), 19 GPIO0 (io), 20 NC, 21 NC, 22 CTS (in), 23 RTS (out), 24 RXD (in), 25 TXD (out), 26 DSR (in), 27 DTR (out), 28 DCD (in), 29 EP (power)

## CP2104-F03-GM
designator IC?
Single-Chip USB to UART Bridge
pins: 1 RI (in), 2 GND (power), 3 D+ (io), 4 D- (io), 5 VIO (power), 6 VDD (power), 7 REGIN (power), 8 VUSB (in), 9 ~{RST} (io), 10 NC, 11 GPIO.3 (io), 12 GPIO.2 (io), 13 GPIO.1 (io), 14 GPIO.0 (io), 15 ~{SUSPEND} (out), 16 VPP, 17 SUSPEND (out), 18 CTS (in), 19 RTS (out), 20 RXD (in), 21 TXD (out), 22 DSR (in), 23 DTR (out), 24 DCD (in), 25 EP (power)

## CP2105-F01-GM
designator IC?
Single-Chip USB to Dual UART Bridge
pins: 1 ~{SUSPEND}/RI_SCI (in), 2 GND (power), 3 D+ (io), 4 D- (io), 5 VIO (power), 6 VDD (power), 7 REGIN (power), 8 VBUS (in), 9 ~{RST} (io), 10 CTS_ECI (in), 11 RTS_ECI (out), 12 RXD_ECI (in), 13 TXD_ECI (out), 14 GPIO.1_ECI/DSR_ECI (io), 15 GPIO.0_ECI/DTR_ECI (io), 16 NC/VPP/DCD_ECI (in), 17 ~{SUSPEND}/RI_ECI (in), 18 CTS_SCI (in), 19 RTS_SCI (out), 20 RXD_SCI (in), 21 TXD_SCI (out), 22 GPIO.2_SCI/DSR_SCI (io), 23 GPIO.1_SCI/DTR_SCI (io), 24 GPIO.0_SCI/DCD_SCI (io), 25 EP (power)

## CP2200-GQ
designator IC?
Single-Chip Ethernet Controller
pins: 1 NC, 2 ACT (out), 3 LINK (out), 4 AGND (power), 5 AV+ (power), 6 RX- (in), 7 RX+ (in), 8 NC, 9 TX+ (out), 10 TX- (out), 11 NC, 12 NC, 13 VDD1 (power), 14 DGND1 (power), 15 ~{RST} (io), 16 D0/AD0 (io), 17 D1/AD1 (io), 18 D2/AD2 (io), 19 D3/AD3 (io), 20 D4/AD4 (io), 21 D5/AD5 (io), 22 D6/AD6 (io), 23 D7/AD7 (io), 24 NC, 25 NC, 26 NC, 27 A0 (in), 28 A1 (in), 29 A2 (in), 30 VDD2 (power), 31 DGND2 (power), 32 A3/ALE/(AS) (in), 33 A4 (in), 34 A5 (in), 35 NC, 36 NC, 37 A6 (in), 38 A7 (in), 39 ~{RD}/(~{DS}) (in), 40 ~{RD}/(R/~{W}) (in), 41 ~{CS} (in), 42 ~{INT} (out), 43 MOTEN (in), 44 MUXEN (in), 45 XTAL2 (out), 46 XTAL1 (in), 47 NC, 48 NC

## CRT910 (LVDS-RX)
designator IC?
8 Channel Differential Line Receiver
pins: 1 IN4A (in), 2 IN4B (in), 3 GND (power), 4 VDDA (power), 5 VDDA (power), 6 EN8RX (in), 7 IN5A (in), 8 IN5B (in), 9 IN6A (in), 10 IN6B (in), 11 IN7A (in), 12 IN7B (in), 13 IN8A (in), 14 IN8B (in), 15 OUT8 (out), 16 OUT7 (out), 17 OUT6 (out), 18 OUT5 (out), 19 GND (power), 20 VDDB (power), 21 VDDB (power), 22 GND (power), 23 OUT4 (out), 24 OUT3 (out), 25 OUT2 (out), 26 OUT1 (out), 27 IN1A (in), 28 IN1B (in), 29 IN2A (in), 30 IN2B (in), 31 IN3A (in), 32 IN3B (in), 33 EP (power)